# Altium integrated library Microchip PIC24F.IntLib: 529 symbols (part 5 of 32)
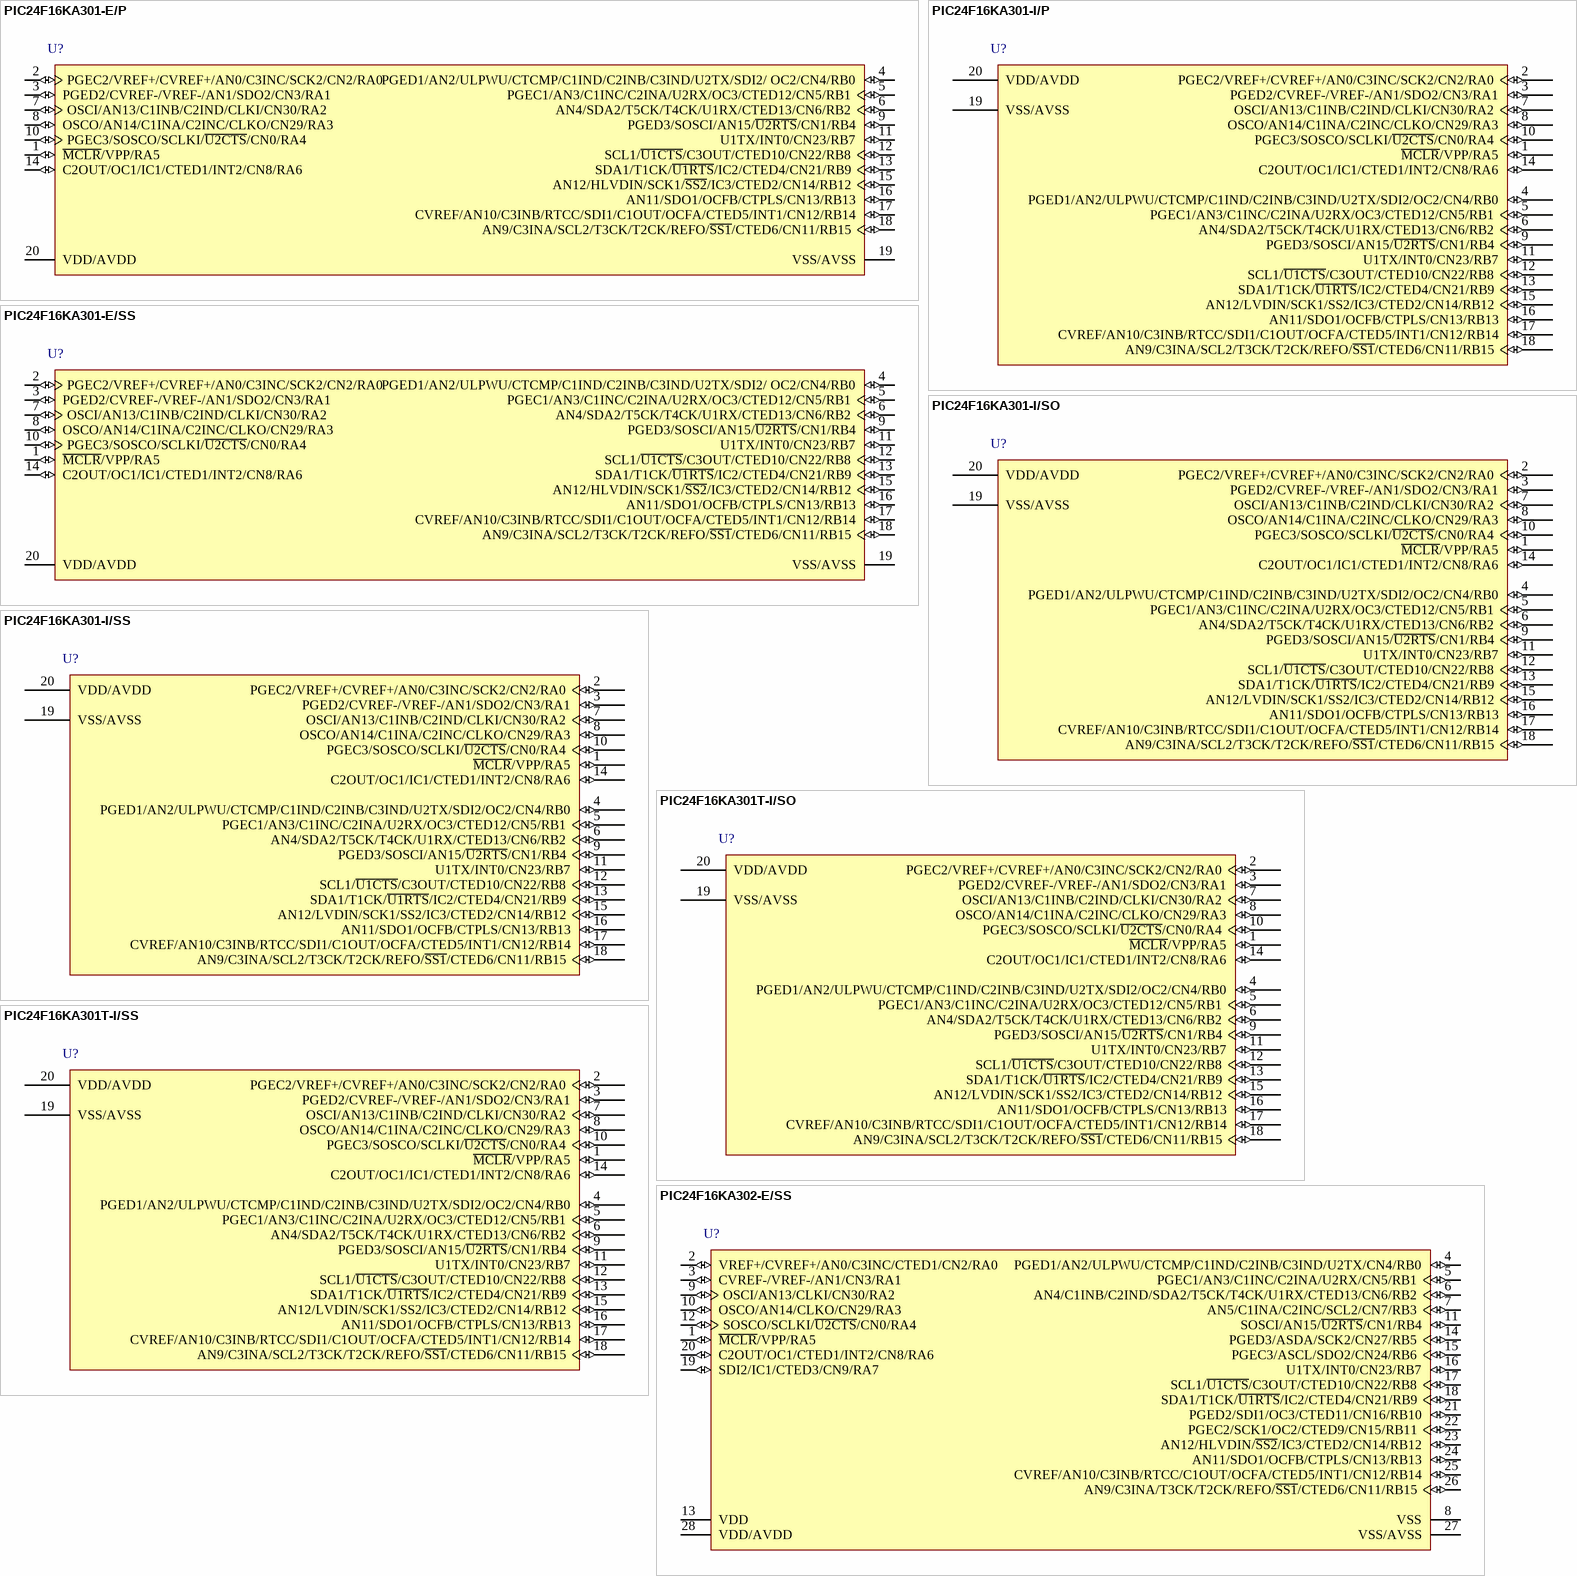
[diagram p126: symbols PIC24F16KA301-E/P to PIC24F16KA302-E/SS]

## PIC24F16KA301-I/SS
designator U?
16-Bit Flash Microcontroller with XLP Technology, 16KB Flash, 2KB SRAM, 20-Pin SSOP, Industrial Temperature; Manufacturer: Microchip; PartNumber: PIC24F16KA301-I/SS; DatasheetVersion: revB, Apr-2011; PackageVersion: revBB, Aug-2009; PackageReference: SSOP-SS20; PackageDescription: 20-Lead Plastic Shrink Small Outline (SS) - 5.3mm Body [SSOP]; Supplier 1: Digi-Key; Supplier Part Number 1: PIC24F16KA301-I/SS-ND; Supplier 2: Farnell; Supplier Part Number 2: 1898794; Supplier 3: Newark; Supplier Part Number 3: 79R3576; Supplier 4: Mouser; Supplier Part Number 4: 579-PIC24F16KA301ISS; Mounting Technology: Surface Mount; Code_JEDEC: MO-150; ComponentLink1Description: Manufacturer URL; ComponentLink1URL: http://www.microchip.com/; ComponentLink2Description: Datasheet; ComponentLink2URL: http://ww1.microchip.com/downloads/en/DeviceDoc/39995_b.pdf; ComponentLink3Description: Package Specification; ComponentLink3URL: http://www.microchip.com/stellent/groups/techpub_sg/documents/packagingspec/en012702.pdf
footprint SSOP-SS20_N (SOP, 20-Leads, Body 7.2x5.2mm, Pitch 0.65mm, IPC Medium Density)
footprint SSOP-SS20_L (SOP, 20-Leads, Body 7.2x5.2mm, Pitch 0.65mm, IPC High Density)
footprint SSOP-SS20_M (SOP, 20-Leads, Body 7.2x5.2mm, Pitch 0.65mm, IPC Low Density)
pins: 1 ~{MCLR}/VPP/RA5 (io), 2 PGEC2/VREF+/CVREF+/AN0/C3INC/SCK2/CN2/RA0 (io), 3 PGED2/CVREF-/VREF-/AN1/SDO2/CN3/RA1 (io), 4 PGED1/AN2/ULPWU/CTCMP/C1IND/C2INB/C3IND/U2TX/SDI2/OC2/CN4/RB0 (io), 5 PGEC1/AN3/C1INC/C2INA/U2RX/OC3/CTED12/CN5/RB1 (io), 6 AN4/SDA2/T5CK/T4CK/U1RX/CTED13/CN6/RB2 (io), 7 OSCI/AN13/C1INB/C2IND/CLKI/CN30/RA2 (io), 8 OSCO/AN14/C1INA/C2INC/CLKO/CN29/RA3 (io), 9 PGED3/SOSCI/AN15/~{U2RTS}/CN1/RB4 (io), 10 PGEC3/SOSCO/SCLKI/~{U2CTS}/CN0/RA4 (io), 11 U1TX/INT0/CN23/RB7 (io), 12 SCL1/~{U1CTS}/C3OUT/CTED10/CN22/RB8 (io), 13 SDA1/T1CK/~{U1RTS}/IC2/CTED4/CN21/RB9 (io), 14 C2OUT/OC1/IC1/CTED1/INT2/CN8/RA6 (io), 15 AN12/LVDIN/SCK1/SS2/IC3/CTED2/CN14/RB12 (io), 16 AN11/SDO1/OCFB/CTPLS/CN13/RB13 (io), 17 CVREF/AN10/C3INB/RTCC/SDI1/C1OUT/OCFA/CTED5/INT1/CN12/RB14 (io), 18 AN9/C3INA/SCL2/T3CK/T2CK/REFO/~{SS1}/CTED6/CN11/RB15 (io), 19 VSS/AVSS (power), 20 VDD/AVDD (power)

## PIC24F16KA301T-I/SO
designator U?
16-Bit Flash Microcontroller with XLP Technology, 16KB Flash, 2KB SRAM, 20-Pin SOIC, Industrial Temperature, Tape and Reel; Manufacturer: Microchip; PartNumber: PIC24F16KA301T-I/SO; DatasheetVersion: revB, Apr-2011; PackageVersion: revBB, Aug-2009; PackageReference: SOIC-SO20; PackageDescription: 20-Lead Plastic Small Outline (SO) - Wide 7.50mm Body [SOIC]; Supplier 1: Digi-Key; Supplier Part Number 1: PIC24F16KA301T-I/SO-ND; Supplier 2: Mouser; Supplier Part Number 2: 579-PIC24F16KA301TI; Mounting Technology: Surface Mount; Code_JEDEC: MS-013-AC; Code_IPC: SOIC127P1030-20; ComponentLink1Description: Manufacturer URL; ComponentLink1URL: http://www.microchip.com/; ComponentLink2Description: Datasheet; ComponentLink2URL: http://ww1.microchip.com/downloads/en/DeviceDoc/39995_b.pdf; ComponentLink3Description: Package Specification; ComponentLink3URL: http://www.microchip.com/stellent/groups/techpub_sg/documents/packagingspec/en012702.pdf
footprint SOIC-SO20_N (SOIC, 20-Leads, Body 12.8x7.5mm, Pitch 1.27mm, IPC Medium Density)
footprint SOIC-SO20_L (SOIC, 20-Leads, Body 12.8x7.5mm, Pitch 1.27mm, IPC High Density)
footprint SOIC-SO20_M (SOIC, 20-Leads, Body 12.8x7.5mm, Pitch 1.27mm, IPC Low Density)
pins: 1 ~{MCLR}/VPP/RA5 (io), 2 PGEC2/VREF+/CVREF+/AN0/C3INC/SCK2/CN2/RA0 (io), 3 PGED2/CVREF-/VREF-/AN1/SDO2/CN3/RA1 (io), 4 PGED1/AN2/ULPWU/CTCMP/C1IND/C2INB/C3IND/U2TX/SDI2/OC2/CN4/RB0 (io), 5 PGEC1/AN3/C1INC/C2INA/U2RX/OC3/CTED12/CN5/RB1 (io), 6 AN4/SDA2/T5CK/T4CK/U1RX/CTED13/CN6/RB2 (io), 7 OSCI/AN13/C1INB/C2IND/CLKI/CN30/RA2 (io), 8 OSCO/AN14/C1INA/C2INC/CLKO/CN29/RA3 (io), 9 PGED3/SOSCI/AN15/~{U2RTS}/CN1/RB4 (io), 10 PGEC3/SOSCO/SCLKI/~{U2CTS}/CN0/RA4 (io), 11 U1TX/INT0/CN23/RB7 (io), 12 SCL1/~{U1CTS}/C3OUT/CTED10/CN22/RB8 (io), 13 SDA1/T1CK/~{U1RTS}/IC2/CTED4/CN21/RB9 (io), 14 C2OUT/OC1/IC1/CTED1/INT2/CN8/RA6 (io), 15 AN12/LVDIN/SCK1/SS2/IC3/CTED2/CN14/RB12 (io), 16 AN11/SDO1/OCFB/CTPLS/CN13/RB13 (io), 17 CVREF/AN10/C3INB/RTCC/SDI1/C1OUT/OCFA/CTED5/INT1/CN12/RB14 (io), 18 AN9/C3INA/SCL2/T3CK/T2CK/REFO/~{SS1}/CTED6/CN11/RB15 (io), 19 VSS/AVSS (power), 20 VDD/AVDD (power)

## PIC24F16KA301T-I/SS
designator U?
16-Bit Flash Microcontroller with XLP Technology, 16KB Flash, 2KB SRAM, 20-Pin SSOP, Industrial Temperature, Tape and Reel; Manufacturer: Microchip; PartNumber: PIC24F16KA301T-I/SS; DatasheetVersion: revB, Apr-2011; PackageVersion: revBB, Aug-2009; PackageReference: SSOP-SS20; PackageDescription: 20-Lead Plastic Shrink Small Outline (SS) - 5.3mm Body [SSOP]; Supplier 1: Digi-Key; Supplier Part Number 1: PIC24F16KA301T-I/SS-ND; Supplier 2: Mouser; Supplier Part Number 2: 579-PIC24F16KA301TIS; Mounting Technology: Surface Mount; Code_JEDEC: MO-150; ComponentLink1Description: Manufacturer URL; ComponentLink1URL: http://www.microchip.com/; ComponentLink2Description: Datasheet; ComponentLink2URL: http://ww1.microchip.com/downloads/en/DeviceDoc/39995_b.pdf; ComponentLink3Description: Package Specification; ComponentLink3URL: http://www.microchip.com/stellent/groups/techpub_sg/documents/packagingspec/en012702.pdf
footprint SSOP-SS20_N (SOP, 20-Leads, Body 7.2x5.2mm, Pitch 0.65mm, IPC Medium Density)
footprint SSOP-SS20_L (SOP, 20-Leads, Body 7.2x5.2mm, Pitch 0.65mm, IPC High Density)
footprint SSOP-SS20_M (SOP, 20-Leads, Body 7.2x5.2mm, Pitch 0.65mm, IPC Low Density)
pins: 1 ~{MCLR}/VPP/RA5 (io), 2 PGEC2/VREF+/CVREF+/AN0/C3INC/SCK2/CN2/RA0 (io), 3 PGED2/CVREF-/VREF-/AN1/SDO2/CN3/RA1 (io), 4 PGED1/AN2/ULPWU/CTCMP/C1IND/C2INB/C3IND/U2TX/SDI2/OC2/CN4/RB0 (io), 5 PGEC1/AN3/C1INC/C2INA/U2RX/OC3/CTED12/CN5/RB1 (io), 6 AN4/SDA2/T5CK/T4CK/U1RX/CTED13/CN6/RB2 (io), 7 OSCI/AN13/C1INB/C2IND/CLKI/CN30/RA2 (io), 8 OSCO/AN14/C1INA/C2INC/CLKO/CN29/RA3 (io), 9 PGED3/SOSCI/AN15/~{U2RTS}/CN1/RB4 (io), 10 PGEC3/SOSCO/SCLKI/~{U2CTS}/CN0/RA4 (io), 11 U1TX/INT0/CN23/RB7 (io), 12 SCL1/~{U1CTS}/C3OUT/CTED10/CN22/RB8 (io), 13 SDA1/T1CK/~{U1RTS}/IC2/CTED4/CN21/RB9 (io), 14 C2OUT/OC1/IC1/CTED1/INT2/CN8/RA6 (io), 15 AN12/LVDIN/SCK1/SS2/IC3/CTED2/CN14/RB12 (io), 16 AN11/SDO1/OCFB/CTPLS/CN13/RB13 (io), 17 CVREF/AN10/C3INB/RTCC/SDI1/C1OUT/OCFA/CTED5/INT1/CN12/RB14 (io), 18 AN9/C3INA/SCL2/T3CK/T2CK/REFO/~{SS1}/CTED6/CN11/RB15 (io), 19 VSS/AVSS (power), 20 VDD/AVDD (power)

## PIC24F16KA302-E/SS
designator U?
General Purpose, 16-Bit Flash Microcontroller with XLP Technology, 16 MIPS, 24 I/O, -40 to 125 degC, 28-pin SSOP (SS28), Tube; Manufacturer: Microchip; PartNumber: PIC24F16KA302-E/SS; DatasheetVersion: Rev. C; PackageVersion: C04-073B; PackageReference: SSOP-SS28; PackageDescription: 28-Lead Plastic Shrink Small Outline, 10.2 x 5.3 mm Body, 0.65 mm Pitch; Supplier 1: Digi-Key; Supplier Part Number 1: PIC24F16KA302-E/SS-ND; Supplier 2: Newark; Supplier Part Number 2: 82R4418; Supplier 3: Mouser; Supplier Part Number 3: 579-PIC24F16KA302ESS; Mounting Technology: Surface Mount; ComponentLink1Description: Manufacturer URL; ComponentLink1URL: http://www.microchip.com; ComponentLink2Description: Datasheet; ComponentLink2URL: http://ww1.microchip.com/downloads/en/DeviceDoc/39995c.pdf; ComponentLink3Description: Package Specification; ComponentLink3URL: http://www.microchip.com/stellent/groups/techpub_sg/documents/packagingspec/en012702.pdf; ComponentLink4Description: Product URL; ComponentLink4URL: http://www.microchip.com/PIC24F16KA302
footprint MCHP-SSOP-SS28_N (SOP, 28-Leads, Body 10.2x5.3mm, Pitch 0.65mm, IPC Medium Density)
footprint MCHP-SSOP-SS28_L (SOP, 28-Leads, Body 10.2x5.3mm, Pitch 0.65mm, IPC High Density)
footprint MCHP-SSOP-SS28_M (SOP, 28-Leads, Body 10.2x5.3mm, Pitch 0.65mm, IPC Low Density)
pins: 1 ~{MCLR}/VPP/RA5 (io), 2 VREF+/CVREF+/AN0/C3INC/CTED1/CN2/RA0 (io), 3 CVREF-/VREF-/AN1/CN3/RA1 (io), 4 PGED1/AN2/ULPWU/CTCMP/C1IND/C2INB/C3IND/U2TX/CN4/RB0 (io), 5 PGEC1/AN3/C1INC/C2INA/U2RX/CN5/RB1 (io), 6 AN4/C1INB/C2IND/SDA2/T5CK/T4CK/U1RX/CTED13/CN6/RB2 (io), 7 AN5/C1INA/C2INC/SCL2/CN7/RB3 (io), 8 VSS (power) "Device Digital Ground Return", 9 OSCI/AN13/CLKI/CN30/RA2 (io), 10 OSCO/AN14/CLKO/CN29/RA3 (io), 11 SOSCI/AN15/~{U2RTS}/CN1/RB4 (io), 12 SOSCO/SCLKI/~{U2CTS}/CN0/RA4 (io), 13 VDD (power) "Device Digital Supply Voltage", 14 PGED3/ASDA/SCK2/CN27/RB5 (io), 15 PGEC3/ASCL/SDO2/CN24/RB6 (io), 16 U1TX/INT0/CN23/RB7 (io), 17 SCL1/~{U1CTS}/C3OUT/CTED10/CN22/RB8 (io), 18 SDA1/T1CK/~{U1RTS}/IC2/CTED4/CN21/RB9 (io), 19 SDI2/IC1/CTED3/CN9/RA7 (io), 20 C2OUT/OC1/CTED1/INT2/CN8/RA6 (io), 21 PGED2/SDI1/OC3/CTED11/CN16/RB10 (io), 22 PGEC2/SCK1/OC2/CTED9/CN15/RB11 (io), 23 AN12/HLVDIN/~{SS2}/IC3/CTED2/CN14/RB12 (io), 24 AN11/SDO1/OCFB/CTPLS/CN13/RB13 (io), 25 CVREF/AN10/C3INB/RTCC/C1OUT/OCFA/CTED5/INT1/CN12/RB14 (io), 26 AN9/C3INA/T3CK/T2CK/REFO/~{SS1}/CTED6/CN11/RB15 (io), 27 VSS/AVSS (power), 28 VDD/AVDD (power)

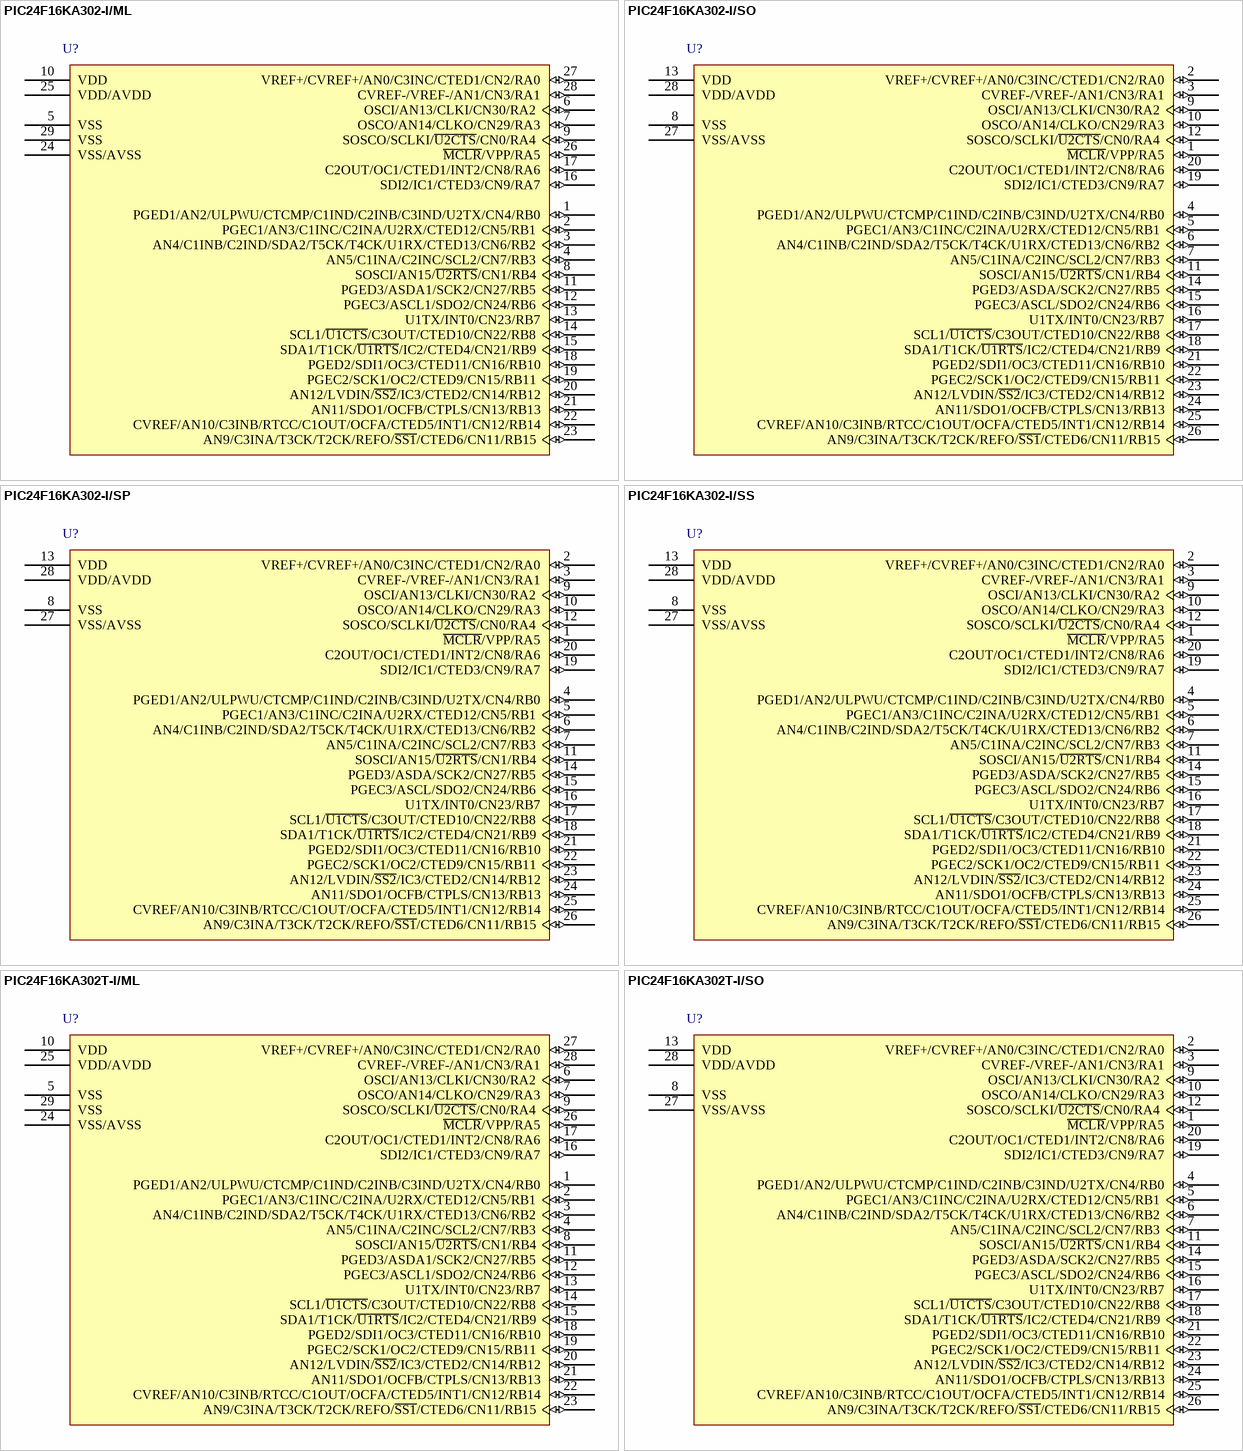
[diagram p12: symbols PIC24F16KA302-I/ML to PIC24F16KA302T-I/SO]

## PIC24F16KA302-I/ML
designator U?
16-Bit Flash Microcontroller with XLP Technology, 16KB Flash, 2KB SRAM, 28-Pin QFN, Industrial Temperature; Manufacturer: Microchip; PartNumber: PIC24F16KA302-I/ML; DatasheetVersion: revB, Apr-2011; PackageVersion: revBB, Aug-2009; PackageReference: QFN-ML28; PackageDescription: 28-Lead Plastic Quad Flat, No Lead Package (ML) - 6x6 mm Body [QFN] with 0.55 mm Contact Length; Supplier 1: Digi-Key; Supplier Part Number 1: PIC24F16KA302-I/ML-ND; Supplier 2: Mouser; Supplier Part Number 2: 579-PIC24F16KA302IML; Mounting Technology: Surface Mount; Code_JEDEC: MO-220; ComponentLink1Description: Manufacturer URL; ComponentLink1URL: http://www.microchip.com/; ComponentLink2Description: Datasheet; ComponentLink2URL: http://ww1.microchip.com/downloads/en/DeviceDoc/39995_b.pdf; ComponentLink3Description: Package Specification; ComponentLink3URL: http://www.microchip.com/stellent/groups/techpub_sg/documents/packagingspec/en012702.pdf
footprint QFN-ML28_N (QFN, 28-Leads, Body 6x6mm, Pitch 0.65mm, Thermal Pad 4.2x4.2mm, IPC Medium Density)
footprint QFN-ML28_L (QFN, 28-Leads, Body 6x6mm, Pitch 0.65mm, Thermal Pad 4.2x4.2mm, IPC High Density)
footprint QFN-ML28_M (QFN, 28-Leads, Body 6x6mm, Pitch 0.65mm, Thermal Pad 4.2x4.2mm, IPC Low Density)
pins: 1 PGED1/AN2/ULPWU/CTCMP/C1IND/C2INB/C3IND/U2TX/CN4/RB0 (io), 2 PGEC1/AN3/C1INC/C2INA/U2RX/CTED12/CN5/RB1 (io), 3 AN4/C1INB/C2IND/SDA2/T5CK/T4CK/U1RX/CTED13/CN6/RB2 (io), 4 AN5/C1INA/C2INC/SCL2/CN7/RB3 (io), 5 VSS (power), 6 OSCI/AN13/CLKI/CN30/RA2 (io), 7 OSCO/AN14/CLKO/CN29/RA3 (io), 8 SOSCI/AN15/~{U2RTS}/CN1/RB4 (io), 9 SOSCO/SCLKI/~{U2CTS}/CN0/RA4 (io), 10 VDD (power), 11 PGED3/ASDA1/SCK2/CN27/RB5 (io), 12 PGEC3/ASCL1/SDO2/CN24/RB6 (io), 13 U1TX/INT0/CN23/RB7 (io), 14 SCL1/~{U1CTS}/C3OUT/CTED10/CN22/RB8 (io), 15 SDA1/T1CK/~{U1RTS}/IC2/CTED4/CN21/RB9 (io), 16 SDI2/IC1/CTED3/CN9/RA7 (io), 17 C2OUT/OC1/CTED1/INT2/CN8/RA6 (io), 18 PGED2/SDI1/OC3/CTED11/CN16/RB10 (io), 19 PGEC2/SCK1/OC2/CTED9/CN15/RB11 (io), 20 AN12/LVDIN/~{SS2}/IC3/CTED2/CN14/RB12 (io), 21 AN11/SDO1/OCFB/CTPLS/CN13/RB13 (io), 22 CVREF/AN10/C3INB/RTCC/C1OUT/OCFA/CTED5/INT1/CN12/RB14 (io), 23 AN9/C3INA/T3CK/T2CK/REFO/~{SS1}/CTED6/CN11/RB15 (io), 24 VSS/AVSS (power), 25 VDD/AVDD (power), 26 ~{MCLR}/VPP/RA5 (io), 27 VREF+/CVREF+/AN0/C3INC/CTED1/CN2/RA0 (io), 28 CVREF-/VREF-/AN1/CN3/RA1 (io), 29 VSS (power)

## PIC24F16KA302-I/SO
designator U?
16-Bit Flash Microcontroller with XLP Technology, 16KB Flash, 2KB SRAM, 28-Pin SOIC, Industrial Temperature; Manufacturer: Microchip; PartNumber: PIC24F16KA302-I/SO; DatasheetVersion: revB, Apr-2011; PackageVersion: revBB, Aug-2009; PackageReference: SOIC-SO28; PackageDescription: 28-Lead Plastic Small Outline (SO) - Wide 7.50mm Body [SOIC]; Supplier 1: Digi-Key; Supplier Part Number 1: PIC24F16KA302-I/SO-ND; Supplier 2: Farnell; Supplier Part Number 2: 1898795; Supplier 3: Newark; Supplier Part Number 3: 79R3580; Supplier 4: Mouser; Supplier Part Number 4: 579-PIC24F16KA302ISO; Mounting Technology: Surface Mount; Code_JEDEC: MS-013; ComponentLink1Description: Manufacturer URL; ComponentLink1URL: http://www.microchip.com/; ComponentLink2Description: Datasheet; ComponentLink2URL: http://ww1.microchip.com/downloads/en/DeviceDoc/39995_b.pdf; ComponentLink3Description: Package Specification; ComponentLink3URL: http://www.microchip.com/stellent/groups/techpub_sg/documents/packagingspec/en012702.pdf
footprint SOIC-SO28_N (SOIC, 28-Leads, Body 17.9x7.5mm, Pitch 1.27mm, IPC Medium Density)
footprint SOIC-SO28_L (SOIC, 28-Leads, Body 17.9x7.5mm, Pitch 1.27mm, IPC High Density)
footprint SOIC-SO28_M (SOIC, 28-Leads, Body 17.9x7.5mm, Pitch 1.27mm, IPC Low Density)
pins: 1 ~{MCLR}/VPP/RA5 (io), 2 VREF+/CVREF+/AN0/C3INC/CTED1/CN2/RA0 (io), 3 CVREF-/VREF-/AN1/CN3/RA1 (io), 4 PGED1/AN2/ULPWU/CTCMP/C1IND/C2INB/C3IND/U2TX/CN4/RB0 (io), 5 PGEC1/AN3/C1INC/C2INA/U2RX/CTED12/CN5/RB1 (io), 6 AN4/C1INB/C2IND/SDA2/T5CK/T4CK/U1RX/CTED13/CN6/RB2 (io), 7 AN5/C1INA/C2INC/SCL2/CN7/RB3 (io), 8 VSS (power), 9 OSCI/AN13/CLKI/CN30/RA2 (io), 10 OSCO/AN14/CLKO/CN29/RA3 (io), 11 SOSCI/AN15/~{U2RTS}/CN1/RB4 (io), 12 SOSCO/SCLKI/~{U2CTS}/CN0/RA4 (io), 13 VDD (power), 14 PGED3/ASDA/SCK2/CN27/RB5 (io), 15 PGEC3/ASCL/SDO2/CN24/RB6 (io), 16 U1TX/INT0/CN23/RB7 (io), 17 SCL1/~{U1CTS}/C3OUT/CTED10/CN22/RB8 (io), 18 SDA1/T1CK/~{U1RTS}/IC2/CTED4/CN21/RB9 (io), 19 SDI2/IC1/CTED3/CN9/RA7 (io), 20 C2OUT/OC1/CTED1/INT2/CN8/RA6 (io), 21 PGED2/SDI1/OC3/CTED11/CN16/RB10 (io), 22 PGEC2/SCK1/OC2/CTED9/CN15/RB11 (io), 23 AN12/LVDIN/~{SS2}/IC3/CTED2/CN14/RB12 (io), 24 AN11/SDO1/OCFB/CTPLS/CN13/RB13 (io), 25 CVREF/AN10/C3INB/RTCC/C1OUT/OCFA/CTED5/INT1/CN12/RB14 (io), 26 AN9/C3INA/T3CK/T2CK/REFO/~{SS1}/CTED6/CN11/RB15 (io), 27 VSS/AVSS (power), 28 VDD/AVDD (power)

## PIC24F16KA302-I/SP
designator U?
16-Bit Flash Microcontroller with XLP Technology, 16KB Flash, 2KB SRAM, 28-Pin SPDIP, Industrial Temperature; Manufacturer: Microchip; PartNumber: PIC24F16KA302-I/SP; DatasheetVersion: revB, Apr-2011; PackageVersion: revBB, Aug-2009; PackageReference: SPDIP300-SP28; PackageDescription: 28-Lead Skinny Plastic Dual In-Line (SP) - 300 mil Body [SPDIP]; Supplier 1: Digi-Key; Supplier Part Number 1: PIC24F16KA302-I/SP-ND; Supplier 2: Mouser; Supplier Part Number 2: 579-PIC24F16KA302ISP; Mounting Technology: Through Hole; ComponentLink1Description: Manufacturer URL; ComponentLink1URL: http://www.microchip.com/; ComponentLink2Description: Datasheet; ComponentLink2URL: http://ww1.microchip.com/downloads/en/DeviceDoc/39995_b.pdf; ComponentLink3Description: Package Specification; ComponentLink3URL: http://www.microchip.com/stellent/groups/techpub_sg/documents/packagingspec/en012702.pdf
footprint SPDIP300-SP28 (DIP, 28-Leads, Row Spacing 7.62mm, Pitch 2.54mm, Body 34.9x6.8mm)
pins: 1 ~{MCLR}/VPP/RA5 (io), 2 VREF+/CVREF+/AN0/C3INC/CTED1/CN2/RA0 (io), 3 CVREF-/VREF-/AN1/CN3/RA1 (io), 4 PGED1/AN2/ULPWU/CTCMP/C1IND/C2INB/C3IND/U2TX/CN4/RB0 (io), 5 PGEC1/AN3/C1INC/C2INA/U2RX/CTED12/CN5/RB1 (io), 6 AN4/C1INB/C2IND/SDA2/T5CK/T4CK/U1RX/CTED13/CN6/RB2 (io), 7 AN5/C1INA/C2INC/SCL2/CN7/RB3 (io), 8 VSS (power), 9 OSCI/AN13/CLKI/CN30/RA2 (io), 10 OSCO/AN14/CLKO/CN29/RA3 (io), 11 SOSCI/AN15/~{U2RTS}/CN1/RB4 (io), 12 SOSCO/SCLKI/~{U2CTS}/CN0/RA4 (io), 13 VDD (power), 14 PGED3/ASDA/SCK2/CN27/RB5 (io), 15 PGEC3/ASCL/SDO2/CN24/RB6 (io), 16 U1TX/INT0/CN23/RB7 (io), 17 SCL1/~{U1CTS}/C3OUT/CTED10/CN22/RB8 (io), 18 SDA1/T1CK/~{U1RTS}/IC2/CTED4/CN21/RB9 (io), 19 SDI2/IC1/CTED3/CN9/RA7 (io), 20 C2OUT/OC1/CTED1/INT2/CN8/RA6 (io), 21 PGED2/SDI1/OC3/CTED11/CN16/RB10 (io), 22 PGEC2/SCK1/OC2/CTED9/CN15/RB11 (io), 23 AN12/LVDIN/~{SS2}/IC3/CTED2/CN14/RB12 (io), 24 AN11/SDO1/OCFB/CTPLS/CN13/RB13 (io), 25 CVREF/AN10/C3INB/RTCC/C1OUT/OCFA/CTED5/INT1/CN12/RB14 (io), 26 AN9/C3INA/T3CK/T2CK/REFO/~{SS1}/CTED6/CN11/RB15 (io), 27 VSS/AVSS (power), 28 VDD/AVDD (power)

## PIC24F16KA302-I/SS
designator U?
16-Bit Flash Microcontroller with XLP Technology, 16KB Flash, 2KB SRAM, 28-Pin SSOP, Industrial Temperature; Manufacturer: Microchip; PartNumber: PIC24F16KA302-I/SS; DatasheetVersion: revB, Apr-2011; PackageVersion: revBB, Aug-2009; PackageReference: SSOP-SS28; PackageDescription: 28-Lead Plastic Shrink Small Outline (SS) - 5.3mm Body [SSOP]; Supplier 1: Digi-Key; Supplier Part Number 1: PIC24F16KA302-I/SS-ND; Supplier 2: Farnell; Supplier Part Number 2: 1898797; Supplier 3: Newark; Supplier Part Number 3: 79R3582; Supplier 4: Mouser; Supplier Part Number 4: 579-PIC24F16KA302ISS; Mounting Technology: Surface Mount; Code_JEDEC: MS-150; ComponentLink1Description: Manufacturer URL; ComponentLink1URL: http://www.microchip.com/; ComponentLink2Description: Datasheet; ComponentLink2URL: http://ww1.microchip.com/downloads/en/DeviceDoc/39995_b.pdf; ComponentLink3Description: Package Specification; ComponentLink3URL: http://www.microchip.com/stellent/groups/techpub_sg/documents/packagingspec/en012702.pdf
footprint SSOP-SS28_N (SOP, 28-Leads, Body 10.2x5.2mm, Pitch 0.65mm, IPC Medium Density)
footprint SSOP-SS28_L (SOP, 28-Leads, Body 10.2x5.2mm, Pitch 0.65mm, IPC High Density)
footprint SSOP-SS28_M (SOP, 28-Leads, Body 10.2x5.2mm, Pitch 0.65mm, IPC Low Density)
pins: 1 ~{MCLR}/VPP/RA5 (io), 2 VREF+/CVREF+/AN0/C3INC/CTED1/CN2/RA0 (io), 3 CVREF-/VREF-/AN1/CN3/RA1 (io), 4 PGED1/AN2/ULPWU/CTCMP/C1IND/C2INB/C3IND/U2TX/CN4/RB0 (io), 5 PGEC1/AN3/C1INC/C2INA/U2RX/CTED12/CN5/RB1 (io), 6 AN4/C1INB/C2IND/SDA2/T5CK/T4CK/U1RX/CTED13/CN6/RB2 (io), 7 AN5/C1INA/C2INC/SCL2/CN7/RB3 (io), 8 VSS (power), 9 OSCI/AN13/CLKI/CN30/RA2 (io), 10 OSCO/AN14/CLKO/CN29/RA3 (io), 11 SOSCI/AN15/~{U2RTS}/CN1/RB4 (io), 12 SOSCO/SCLKI/~{U2CTS}/CN0/RA4 (io), 13 VDD (power), 14 PGED3/ASDA/SCK2/CN27/RB5 (io), 15 PGEC3/ASCL/SDO2/CN24/RB6 (io), 16 U1TX/INT0/CN23/RB7 (io), 17 SCL1/~{U1CTS}/C3OUT/CTED10/CN22/RB8 (io), 18 SDA1/T1CK/~{U1RTS}/IC2/CTED4/CN21/RB9 (io), 19 SDI2/IC1/CTED3/CN9/RA7 (io), 20 C2OUT/OC1/CTED1/INT2/CN8/RA6 (io), 21 PGED2/SDI1/OC3/CTED11/CN16/RB10 (io), 22 PGEC2/SCK1/OC2/CTED9/CN15/RB11 (io), 23 AN12/LVDIN/~{SS2}/IC3/CTED2/CN14/RB12 (io), 24 AN11/SDO1/OCFB/CTPLS/CN13/RB13 (io), 25 CVREF/AN10/C3INB/RTCC/C1OUT/OCFA/CTED5/INT1/CN12/RB14 (io), 26 AN9/C3INA/T3CK/T2CK/REFO/~{SS1}/CTED6/CN11/RB15 (io), 27 VSS/AVSS (power), 28 VDD/AVDD (power)

## PIC24F16KA302T-I/ML
designator U?
16-Bit Flash Microcontroller with XLP Technology, 16KB Flash, 2KB SRAM, 28-Pin QFN, Industrial Temperature, Tape and Reel; Manufacturer: Microchip; PartNumber: PIC24F16KA302T-I/ML; DatasheetVersion: revB, Apr-2011; PackageVersion: revBB, Aug-2009; PackageReference: QFN-ML28; PackageDescription: 28-Lead Plastic Quad Flat, No Lead Package (ML) - 6x6 mm Body [QFN] with 0.55 mm Contact Length; Supplier 1: Digi-Key; Supplier Part Number 1: PIC24F16KA302T-I/ML-ND; Supplier 2: Mouser; Supplier Part Number 2: 579-PIC24F16KA302TIM; Mounting Technology: Surface Mount; Code_JEDEC: MO-220; ComponentLink1Description: Manufacturer URL; ComponentLink1URL: http://www.microchip.com/; ComponentLink2Description: Datasheet; ComponentLink2URL: http://ww1.microchip.com/downloads/en/DeviceDoc/39995_b.pdf; ComponentLink3Description: Package Specification; ComponentLink3URL: http://www.microchip.com/stellent/groups/techpub_sg/documents/packagingspec/en012702.pdf
footprint QFN-ML28_N (QFN, 28-Leads, Body 6x6mm, Pitch 0.65mm, Thermal Pad 4.2x4.2mm, IPC Medium Density)
footprint QFN-ML28_L (QFN, 28-Leads, Body 6x6mm, Pitch 0.65mm, Thermal Pad 4.2x4.2mm, IPC High Density)
footprint QFN-ML28_M (QFN, 28-Leads, Body 6x6mm, Pitch 0.65mm, Thermal Pad 4.2x4.2mm, IPC Low Density)
pins: 1 PGED1/AN2/ULPWU/CTCMP/C1IND/C2INB/C3IND/U2TX/CN4/RB0 (io), 2 PGEC1/AN3/C1INC/C2INA/U2RX/CTED12/CN5/RB1 (io), 3 AN4/C1INB/C2IND/SDA2/T5CK/T4CK/U1RX/CTED13/CN6/RB2 (io), 4 AN5/C1INA/C2INC/SCL2/CN7/RB3 (io), 5 VSS (power), 6 OSCI/AN13/CLKI/CN30/RA2 (io), 7 OSCO/AN14/CLKO/CN29/RA3 (io), 8 SOSCI/AN15/~{U2RTS}/CN1/RB4 (io), 9 SOSCO/SCLKI/~{U2CTS}/CN0/RA4 (io), 10 VDD (power), 11 PGED3/ASDA1/SCK2/CN27/RB5 (io), 12 PGEC3/ASCL1/SDO2/CN24/RB6 (io), 13 U1TX/INT0/CN23/RB7 (io), 14 SCL1/~{U1CTS}/C3OUT/CTED10/CN22/RB8 (io), 15 SDA1/T1CK/~{U1RTS}/IC2/CTED4/CN21/RB9 (io), 16 SDI2/IC1/CTED3/CN9/RA7 (io), 17 C2OUT/OC1/CTED1/INT2/CN8/RA6 (io), 18 PGED2/SDI1/OC3/CTED11/CN16/RB10 (io), 19 PGEC2/SCK1/OC2/CTED9/CN15/RB11 (io), 20 AN12/LVDIN/~{SS2}/IC3/CTED2/CN14/RB12 (io), 21 AN11/SDO1/OCFB/CTPLS/CN13/RB13 (io), 22 CVREF/AN10/C3INB/RTCC/C1OUT/OCFA/CTED5/INT1/CN12/RB14 (io), 23 AN9/C3INA/T3CK/T2CK/REFO/~{SS1}/CTED6/CN11/RB15 (io), 24 VSS/AVSS (power), 25 VDD/AVDD (power), 26 ~{MCLR}/VPP/RA5 (io), 27 VREF+/CVREF+/AN0/C3INC/CTED1/CN2/RA0 (io), 28 CVREF-/VREF-/AN1/CN3/RA1 (io), 29 VSS (power)

## PIC24F16KA302T-I/SO
designator U?
16-Bit Flash Microcontroller with XLP Technology, 16KB Flash, 2KB SRAM, 28-Pin SOIC, Industrial Temperature, Tape and Reel; Manufacturer: Microchip; PartNumber: PIC24F16KA302T-I/SO; DatasheetVersion: revB, Apr-2011; PackageVersion: revBB, Aug-2009; PackageReference: SOIC-SO28; PackageDescription: 28-Lead Plastic Small Outline (SO) - Wide 7.50mm Body [SOIC]; Supplier 1: Digi-Key; Supplier Part Number 1: PIC24F16KA302T-I/SO-ND; Supplier 2: Mouser; Supplier Part Number 2: 579-PIC24F16KA302TI; Mounting Technology: Surface Mount; Code_JEDEC: MS-013; ComponentLink1Description: Manufacturer URL; ComponentLink1URL: http://www.microchip.com/; ComponentLink2Description: Datasheet; ComponentLink2URL: http://ww1.microchip.com/downloads/en/DeviceDoc/39995_b.pdf; ComponentLink3Description: Package Specification; ComponentLink3URL: http://www.microchip.com/stellent/groups/techpub_sg/documents/packagingspec/en012702.pdf
footprint SOIC-SO28_N (SOIC, 28-Leads, Body 17.9x7.5mm, Pitch 1.27mm, IPC Medium Density)
footprint SOIC-SO28_L (SOIC, 28-Leads, Body 17.9x7.5mm, Pitch 1.27mm, IPC High Density)
footprint SOIC-SO28_M (SOIC, 28-Leads, Body 17.9x7.5mm, Pitch 1.27mm, IPC Low Density)
pins: 1 ~{MCLR}/VPP/RA5 (io), 2 VREF+/CVREF+/AN0/C3INC/CTED1/CN2/RA0 (io), 3 CVREF-/VREF-/AN1/CN3/RA1 (io), 4 PGED1/AN2/ULPWU/CTCMP/C1IND/C2INB/C3IND/U2TX/CN4/RB0 (io), 5 PGEC1/AN3/C1INC/C2INA/U2RX/CTED12/CN5/RB1 (io), 6 AN4/C1INB/C2IND/SDA2/T5CK/T4CK/U1RX/CTED13/CN6/RB2 (io), 7 AN5/C1INA/C2INC/SCL2/CN7/RB3 (io), 8 VSS (power), 9 OSCI/AN13/CLKI/CN30/RA2 (io), 10 OSCO/AN14/CLKO/CN29/RA3 (io), 11 SOSCI/AN15/~{U2RTS}/CN1/RB4 (io), 12 SOSCO/SCLKI/~{U2CTS}/CN0/RA4 (io), 13 VDD (power), 14 PGED3/ASDA/SCK2/CN27/RB5 (io), 15 PGEC3/ASCL/SDO2/CN24/RB6 (io), 16 U1TX/INT0/CN23/RB7 (io), 17 SCL1/~{U1CTS}/C3OUT/CTED10/CN22/RB8 (io), 18 SDA1/T1CK/~{U1RTS}/IC2/CTED4/CN21/RB9 (io), 19 SDI2/IC1/CTED3/CN9/RA7 (io), 20 C2OUT/OC1/CTED1/INT2/CN8/RA6 (io), 21 PGED2/SDI1/OC3/CTED11/CN16/RB10 (io), 22 PGEC2/SCK1/OC2/CTED9/CN15/RB11 (io), 23 AN12/LVDIN/~{SS2}/IC3/CTED2/CN14/RB12 (io), 24 AN11/SDO1/OCFB/CTPLS/CN13/RB13 (io), 25 CVREF/AN10/C3INB/RTCC/C1OUT/OCFA/CTED5/INT1/CN12/RB14 (io), 26 AN9/C3INA/T3CK/T2CK/REFO/~{SS1}/CTED6/CN11/RB15 (io), 27 VSS/AVSS (power), 28 VDD/AVDD (power)

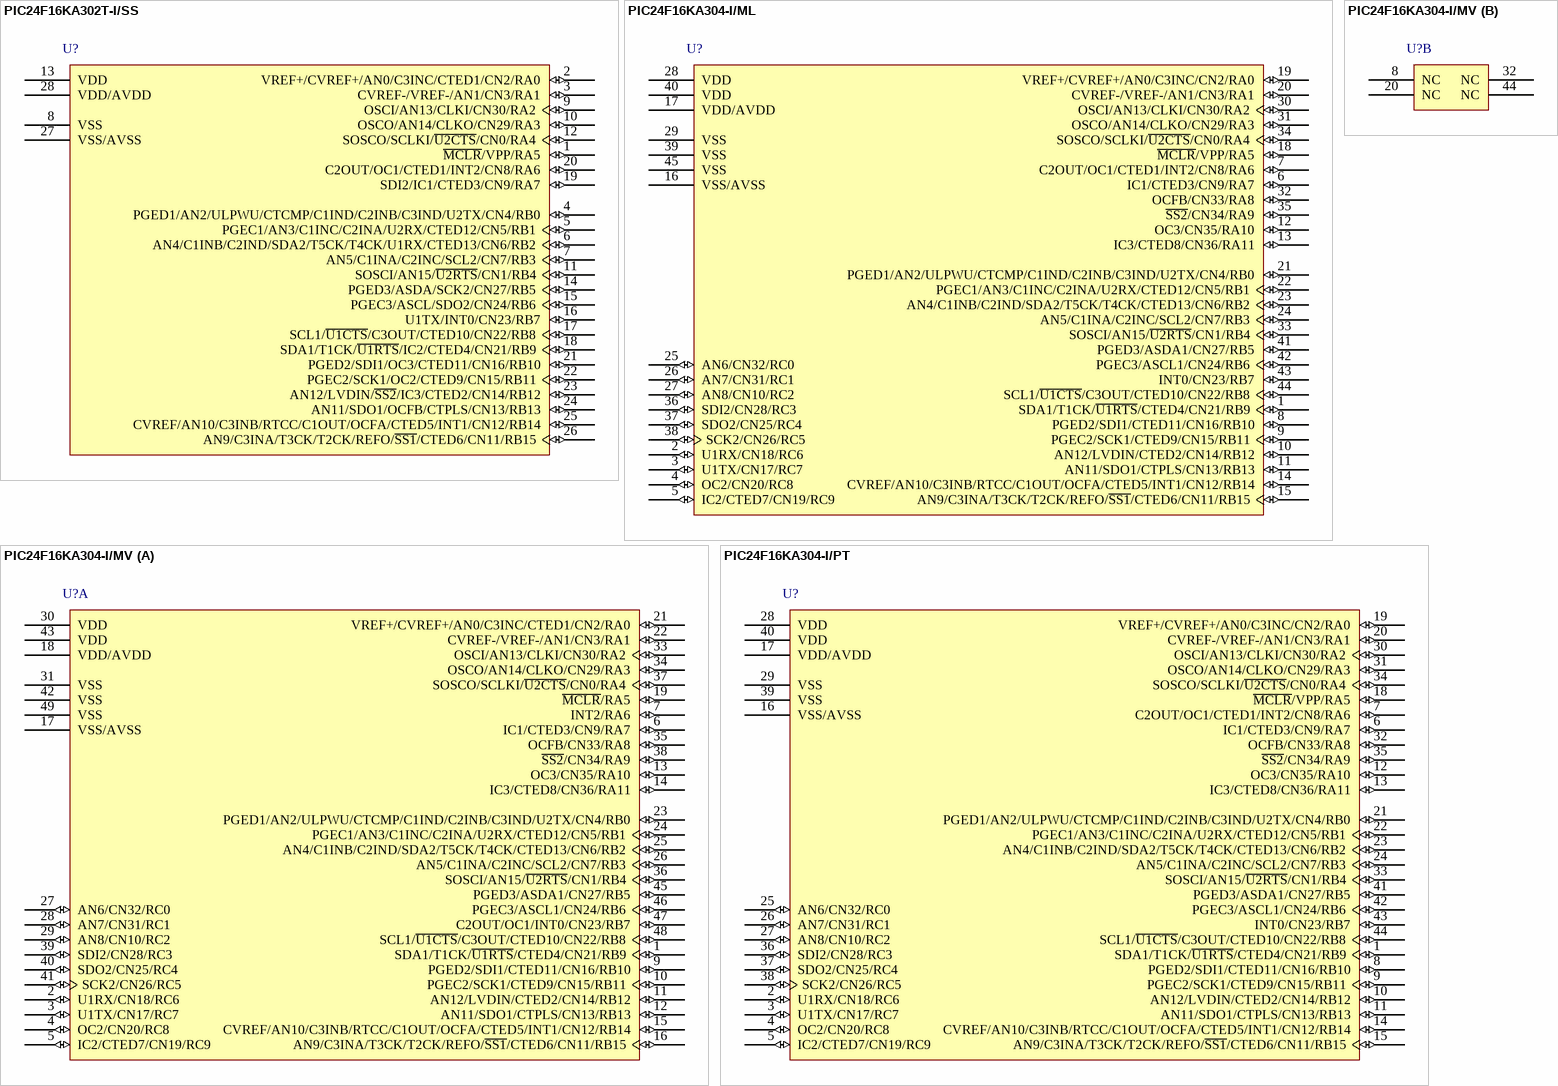
[diagram p13: symbols PIC24F16KA302T-I/SS to PIC24F16KA304-I/PT]

## PIC24F16KA302T-I/SS
designator U?
16-Bit Flash Microcontroller with XLP Technology, 16KB Flash, 2KB SRAM, 28-Pin SSOP, Industrial Temperature, Tape and Reel; Manufacturer: Microchip; PartNumber: PIC24F16KA302T-I/SS; DatasheetVersion: revB, Apr-2011; PackageVersion: revBB, Aug-2009; PackageReference: SSOP-SS28; PackageDescription: 28-Lead Plastic Shrink Small Outline (SS) - 5.3mm Body [SSOP]; Supplier 1: Digi-Key; Supplier Part Number 1: PIC24F16KA302T-I/SS-ND; Supplier 2: Mouser; Supplier Part Number 2: 579-PIC24F16KA302TIS; Mounting Technology: Surface Mount; Code_JEDEC: MS-150; ComponentLink1Description: Manufacturer URL; ComponentLink1URL: http://www.microchip.com/; ComponentLink2Description: Datasheet; ComponentLink2URL: http://ww1.microchip.com/downloads/en/DeviceDoc/39995_b.pdf; ComponentLink3Description: Package Specification; ComponentLink3URL: http://www.microchip.com/stellent/groups/techpub_sg/documents/packagingspec/en012702.pdf
footprint SSOP-SS28_N (SOP, 28-Leads, Body 10.2x5.2mm, Pitch 0.65mm, IPC Medium Density)
footprint SSOP-SS28_L (SOP, 28-Leads, Body 10.2x5.2mm, Pitch 0.65mm, IPC High Density)
footprint SSOP-SS28_M (SOP, 28-Leads, Body 10.2x5.2mm, Pitch 0.65mm, IPC Low Density)
pins: 1 ~{MCLR}/VPP/RA5 (io), 2 VREF+/CVREF+/AN0/C3INC/CTED1/CN2/RA0 (io), 3 CVREF-/VREF-/AN1/CN3/RA1 (io), 4 PGED1/AN2/ULPWU/CTCMP/C1IND/C2INB/C3IND/U2TX/CN4/RB0 (io), 5 PGEC1/AN3/C1INC/C2INA/U2RX/CTED12/CN5/RB1 (io), 6 AN4/C1INB/C2IND/SDA2/T5CK/T4CK/U1RX/CTED13/CN6/RB2 (io), 7 AN5/C1INA/C2INC/SCL2/CN7/RB3 (io), 8 VSS (power), 9 OSCI/AN13/CLKI/CN30/RA2 (io), 10 OSCO/AN14/CLKO/CN29/RA3 (io), 11 SOSCI/AN15/~{U2RTS}/CN1/RB4 (io), 12 SOSCO/SCLKI/~{U2CTS}/CN0/RA4 (io), 13 VDD (power), 14 PGED3/ASDA/SCK2/CN27/RB5 (io), 15 PGEC3/ASCL/SDO2/CN24/RB6 (io), 16 U1TX/INT0/CN23/RB7 (io), 17 SCL1/~{U1CTS}/C3OUT/CTED10/CN22/RB8 (io), 18 SDA1/T1CK/~{U1RTS}/IC2/CTED4/CN21/RB9 (io), 19 SDI2/IC1/CTED3/CN9/RA7 (io), 20 C2OUT/OC1/CTED1/INT2/CN8/RA6 (io), 21 PGED2/SDI1/OC3/CTED11/CN16/RB10 (io), 22 PGEC2/SCK1/OC2/CTED9/CN15/RB11 (io), 23 AN12/LVDIN/~{SS2}/IC3/CTED2/CN14/RB12 (io), 24 AN11/SDO1/OCFB/CTPLS/CN13/RB13 (io), 25 CVREF/AN10/C3INB/RTCC/C1OUT/OCFA/CTED5/INT1/CN12/RB14 (io), 26 AN9/C3INA/T3CK/T2CK/REFO/~{SS1}/CTED6/CN11/RB15 (io), 27 VSS/AVSS (power), 28 VDD/AVDD (power)

## PIC24F16KA304-I/ML
designator U?
16-Bit Flash Microcontroller with XLP Technology, 16KB Flash, 2KB SRAM, 44-Pin QFN, Industrial Temperature; Manufacturer: Microchip; PartNumber: PIC24F16KA304-I/ML; DatasheetVersion: revB, Apr-2011; PackageVersion: revBB, Aug-2009; PackageReference: QFN-ML44; PackageDescription: 44-Lead Plastic Quad Flat, No Lead Package (ML) - 8x8 mm Body [QFN]; Supplier 1: Digi-Key; Supplier Part Number 1: PIC24F16KA304-I/ML-ND; Supplier 2: Mouser; Supplier Part Number 2: 579-PIC24F16KA304IML; Mounting Technology: Surface Mount; Code_JEDEC: MO-220; Code_IPC: QFN65P800X800-44V2; ComponentLink1Description: Manufacturer URL; ComponentLink1URL: http://www.microchip.com/; ComponentLink2Description: Datasheet; ComponentLink2URL: http://ww1.microchip.com/downloads/en/DeviceDoc/39995_b.pdf; ComponentLink3Description: Package Specification; ComponentLink3URL: http://www.microchip.com/stellent/groups/techpub_sg/documents/packagingspec/en012702.pdf
footprint QFN-ML44_N (QFN, 44-Leads, Body 8x8mm, Pitch 0.65mm, Thermal Pad 6.8x6.8mm, IPC Medium Density)
footprint QFN-ML44_L (QFN, 44-Leads, Body 8x8mm, Pitch 0.65mm, Thermal Pad 6.8x6.8mm, IPC High Density)
footprint QFN-ML44_M (QFN, 44-Leads, Body 8x8mm, Pitch 0.65mm, Thermal Pad 6.8x6.8mm, IPC Low Density)
pins: 1 SDA1/T1CK/~{U1RTS}/CTED4/CN21/RB9 (io), 2 U1RX/CN18/RC6 (io), 3 U1TX/CN17/RC7 (io), 4 OC2/CN20/RC8 (io), 5 IC2/CTED7/CN19/RC9 (io), 6 IC1/CTED3/CN9/RA7 (io), 7 C2OUT/OC1/CTED1/INT2/CN8/RA6 (io), 8 PGED2/SDI1/CTED11/CN16/RB10 (io), 9 PGEC2/SCK1/CTED9/CN15/RB11 (io), 10 AN12/LVDIN/CTED2/CN14/RB12 (io), 11 AN11/SDO1/CTPLS/CN13/RB13 (io), 12 OC3/CN35/RA10 (io), 13 IC3/CTED8/CN36/RA11 (io), 14 CVREF/AN10/C3INB/RTCC/C1OUT/OCFA/CTED5/INT1/CN12/RB14 (io), 15 AN9/C3INA/T3CK/T2CK/REFO/~{SS1}/CTED6/CN11/RB15 (io), 16 VSS/AVSS (power), 17 VDD/AVDD (power), 18 ~{MCLR}/VPP/RA5 (io), 19 VREF+/CVREF+/AN0/C3INC/CN2/RA0 (io), 20 CVREF-/VREF-/AN1/CN3/RA1 (io), 21 PGED1/AN2/ULPWU/CTCMP/C1IND/C2INB/C3IND/U2TX/CN4/RB0 (io), 22 PGEC1/AN3/C1INC/C2INA/U2RX/CTED12/CN5/RB1 (io), 23 AN4/C1INB/C2IND/SDA2/T5CK/T4CK/CTED13/CN6/RB2 (io), 24 AN5/C1INA/C2INC/SCL2/CN7/RB3 (io), 25 AN6/CN32/RC0 (io), 26 AN7/CN31/RC1 (io), 27 AN8/CN10/RC2 (io), 28 VDD (power), 29 VSS (power), 30 OSCI/AN13/CLKI/CN30/RA2 (io), 31 OSCO/AN14/CLKO/CN29/RA3 (io), 32 OCFB/CN33/RA8 (io), 33 SOSCI/AN15/~{U2RTS}/CN1/RB4 (io), 34 SOSCO/SCLKI/~{U2CTS}/CN0/RA4 (io), 35 ~{SS2}/CN34/RA9 (io), 36 SDI2/CN28/RC3 (io), 37 SDO2/CN25/RC4 (io), 38 SCK2/CN26/RC5 (io), 39 VSS (power), 40 VDD (power), 41 PGED3/ASDA1/CN27/RB5 (io), 42 PGEC3/ASCL1/CN24/RB6 (io), 43 INT0/CN23/RB7 (io), 44 SCL1/~{U1CTS}/C3OUT/CTED10/CN22/RB8 (io), 45 VSS (power)

## PIC24F16KA304-I/MV
designator U?
16-Bit Flash Microcontroller with XLP Technology, 16KB Flash, 2KB SRAM, 48-Pin UQFN, Industrial Temperature; Manufacturer: Microchip; PartNumber: PIC24F16KA304-I/MV; DatasheetVersion: revB, Apr-2011; PackageVersion: revBG, Mar-2011; PackageReference: UQFN-MV48; PackageDescription: 48-Lead Plastic Ultra Thin Quad Flat, No Lead Package (MV) - 6x6x0.5 mm Body [UQFN]; Supplier 1: Digi-Key; Supplier Part Number 1: PIC24F16KA304-I/MV-ND; Supplier 2: Mouser; Supplier Part Number 2: 579-PIC24F16KA304IMV; Mounting Technology: Surface Mount; ComponentLink1Description: Manufacturer URL; ComponentLink1URL: http://www.microchip.com/; ComponentLink2Description: Datasheet; ComponentLink2URL: http://ww1.microchip.com/downloads/en/DeviceDoc/39995_b.pdf; ComponentLink3Description: Package Specification; ComponentLink3URL: http://www.microchip.com/stellent/groups/techpub_sg/documents/packagingspec/en012702.pdf
footprint UQFN-MV48_N (QFN, 48-Leads, Body 6x6mm, Pitch 0.4mm, Thermal Pad 4.8x4.8mm, IPC Medium Density)
footprint UQFN-MV48_L (QFN, 48-Leads, Body 6x6mm, Pitch 0.4mm, Thermal Pad 4.8x4.8mm, IPC High Density)
footprint UQFN-MV48_M (QFN, 48-Leads, Body 6x6mm, Pitch 0.4mm, Thermal Pad 4.8x4.8mm, IPC Low Density)
part A pins: 1 SDA1/T1CK/~{U1RTS}/CTED4/CN21/RB9 (io), 2 U1RX/CN18/RC6 (io), 3 U1TX/CN17/RC7 (io), 4 OC2/CN20/RC8 (io), 5 IC2/CTED7/CN19/RC9 (io), 6 IC1/CTED3/CN9/RA7 (io), 7 INT2/RA6 (io), 9 PGED2/SDI1/CTED11/CN16/RB10 (io), 10 PGEC2/SCK1/CTED9/CN15/RB11 (io), 11 AN12/LVDIN/CTED2/CN14/RB12 (io), 12 AN11/SDO1/CTPLS/CN13/RB13 (io), 13 OC3/CN35/RA10 (io), 14 IC3/CTED8/CN36/RA11 (io), 15 CVREF/AN10/C3INB/RTCC/C1OUT/OCFA/CTED5/INT1/CN12/RB14 (io), 16 AN9/C3INA/T3CK/T2CK/REFO/~{SS1}/CTED6/CN11/RB15 (io), 17 VSS/AVSS (power), 18 VDD/AVDD (power), 19 ~{MCLR}/RA5 (io), 21 VREF+/CVREF+/AN0/C3INC/CTED1/CN2/RA0 (io), 22 CVREF-/VREF-/AN1/CN3/RA1 (io), 23 PGED1/AN2/ULPWU/CTCMP/C1IND/C2INB/C3IND/U2TX/CN4/RB0 (io), 24 PGEC1/AN3/C1INC/C2INA/U2RX/CTED12/CN5/RB1 (io), 25 AN4/C1INB/C2IND/SDA2/T5CK/T4CK/CTED13/CN6/RB2 (io), 26 AN5/C1INA/C2INC/SCL2/CN7/RB3 (io), 27 AN6/CN32/RC0 (io), 28 AN7/CN31/RC1 (io), 29 AN8/CN10/RC2 (io), 30 VDD (power), 31 VSS (power), 33 OSCI/AN13/CLKI/CN30/RA2 (io), 34 OSCO/AN14/CLKO/CN29/RA3 (io), 35 OCFB/CN33/RA8 (io), 36 SOSCI/AN15/~{U2RTS}/CN1/RB4 (io), 37 SOSCO/SCLKI/~{U2CTS}/CN0/RA4 (io), 38 ~{SS2}/CN34/RA9 (io), 39 SDI2/CN28/RC3 (io), 40 SDO2/CN25/RC4 (io), 41 SCK2/CN26/RC5 (io), 42 VSS (power), 43 VDD (power), 45 PGED3/ASDA1/CN27/RB5 (io), 46 PGEC3/ASCL1/CN24/RB6 (io), 47 C2OUT/OC1/INT0/CN23/RB7 (io), 48 SCL1/~{U1CTS}/C3OUT/CTED10/CN22/RB8 (io), 49 VSS (power)
part B pins: 8 NC, 20 NC, 32 NC, 44 NC

## PIC24F16KA304-I/PT
designator U?
16-Bit Flash Microcontroller with XLP Technology, 16KB Flash, 2KB SRAM, 44-Pin TQFP, Industrial Temperature; Manufacturer: Microchip; PartNumber: PIC24F16KA304-I/PT; DatasheetVersion: revB, Apr-2011; PackageVersion: revBB, Aug-2009; PackageReference: TQFP-PT44; PackageDescription: 44-Lead Plastic Thin Quad Flatpack (PT) - 10x10x1mm Body, 2.00mm [TQFP]; Supplier 1: Digi-Key; Supplier Part Number 1: PIC24F16KA304-I/PT-ND; Supplier 2: Mouser; Supplier Part Number 2: 579-PIC24F16KA304IPT; Mounting Technology: Surface Mount; Code_JEDEC: MS-026; ComponentLink1Description: Manufacturer URL; ComponentLink1URL: http://www.microchip.com/; ComponentLink2Description: Datasheet; ComponentLink2URL: http://ww1.microchip.com/downloads/en/DeviceDoc/39995_b.pdf; ComponentLink3Description: Package Specification; ComponentLink3URL: http://www.microchip.com/stellent/groups/techpub_sg/documents/packagingspec/en012702.pdf
footprint TQFP-PT44_N (Thin QFP, 44-Leads, Body 10x10mm, Pitch 0.8mm, IPC Medium Density)
footprint TQFP-PT44_L (Thin QFP, 44-Leads, Body 10x10mm, Pitch 0.8mm, IPC High Density)
footprint TQFP-PT44_M (Thin QFP, 44-Leads, Body 10x10mm, Pitch 0.8mm, IPC Low Density)
pins: 1 SDA1/T1CK/~{U1RTS}/CTED4/CN21/RB9 (io), 2 U1RX/CN18/RC6 (io), 3 U1TX/CN17/RC7 (io), 4 OC2/CN20/RC8 (io), 5 IC2/CTED7/CN19/RC9 (io), 6 IC1/CTED3/CN9/RA7 (io), 7 C2OUT/OC1/CTED1/INT2/CN8/RA6 (io), 8 PGED2/SDI1/CTED11/CN16/RB10 (io), 9 PGEC2/SCK1/CTED9/CN15/RB11 (io), 10 AN12/LVDIN/CTED2/CN14/RB12 (io), 11 AN11/SDO1/CTPLS/CN13/RB13 (io), 12 OC3/CN35/RA10 (io), 13 IC3/CTED8/CN36/RA11 (io), 14 CVREF/AN10/C3INB/RTCC/C1OUT/OCFA/CTED5/INT1/CN12/RB14 (io), 15 AN9/C3INA/T3CK/T2CK/REFO/~{SS1}/CTED6/CN11/RB15 (io), 16 VSS/AVSS (power), 17 VDD/AVDD (power), 18 ~{MCLR}/VPP/RA5 (io), 19 VREF+/CVREF+/AN0/C3INC/CN2/RA0 (io), 20 CVREF-/VREF-/AN1/CN3/RA1 (io), 21 PGED1/AN2/ULPWU/CTCMP/C1IND/C2INB/C3IND/U2TX/CN4/RB0 (io), 22 PGEC1/AN3/C1INC/C2INA/U2RX/CTED12/CN5/RB1 (io), 23 AN4/C1INB/C2IND/SDA2/T5CK/T4CK/CTED13/CN6/RB2 (io), 24 AN5/C1INA/C2INC/SCL2/CN7/RB3 (io), 25 AN6/CN32/RC0 (io), 26 AN7/CN31/RC1 (io), 27 AN8/CN10/RC2 (io), 28 VDD (power), 29 VSS (power), 30 OSCI/AN13/CLKI/CN30/RA2 (io), 31 OSCO/AN14/CLKO/CN29/RA3 (io), 32 OCFB/CN33/RA8 (io), 33 SOSCI/AN15/~{U2RTS}/CN1/RB4 (io), 34 SOSCO/SCLKI/~{U2CTS}/CN0/RA4 (io), 35 ~{SS2}/CN34/RA9 (io), 36 SDI2/CN28/RC3 (io), 37 SDO2/CN25/RC4 (io), 38 SCK2/CN26/RC5 (io), 39 VSS (power), 40 VDD (power), 41 PGED3/ASDA1/CN27/RB5 (io), 42 PGEC3/ASCL1/CN24/RB6 (io), 43 INT0/CN23/RB7 (io), 44 SCL1/~{U1CTS}/C3OUT/CTED10/CN22/RB8 (io)

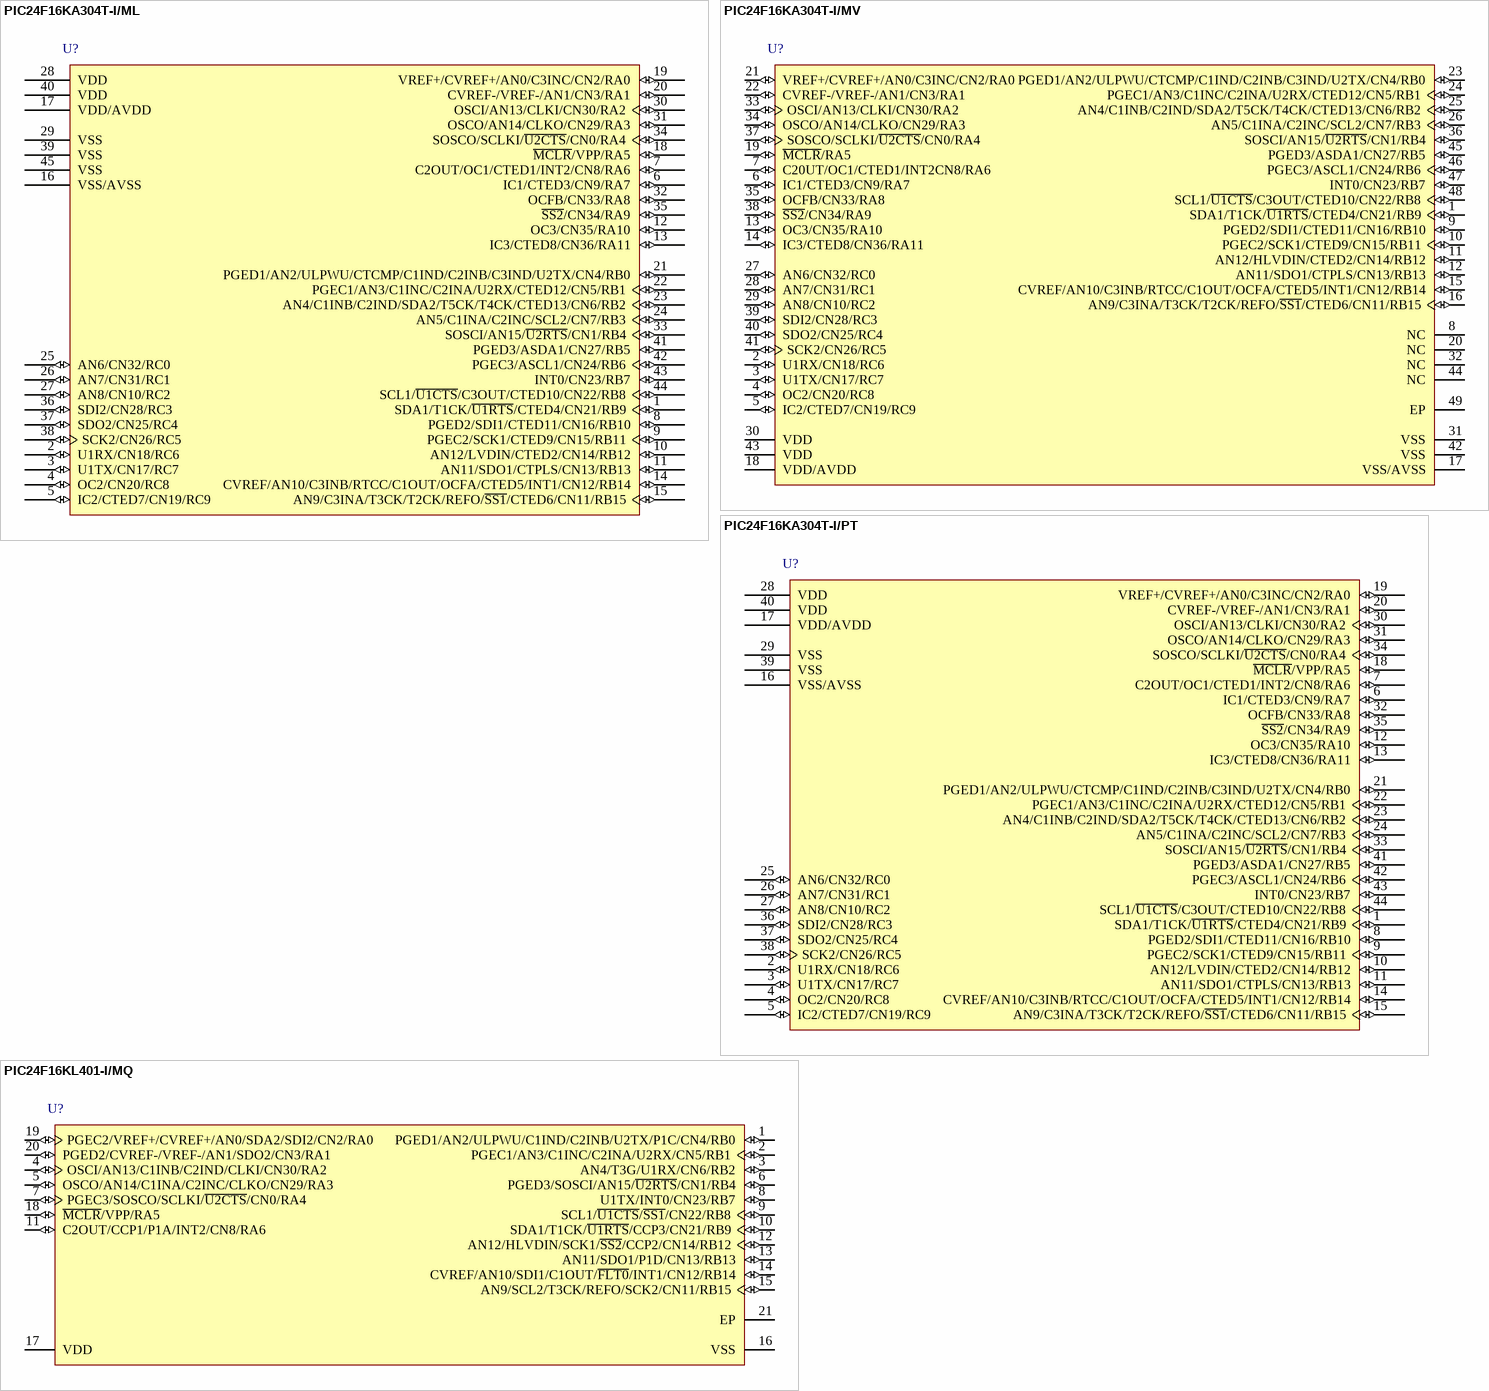
[diagram p14: symbols PIC24F16KA304T-I/ML to PIC24F16KL401-I/MQ]

## PIC24F16KA304T-I/ML
designator U?
16-Bit Flash Microcontroller with XLP Technology, 16KB Flash, 2KB SRAM, 44-Pin QFN, Industrial Temperature, Tape and Reel; Manufacturer: Microchip; PartNumber: PIC24F16KA304T-I/ML; DatasheetVersion: revB, Apr-2011; PackageVersion: revBB, Aug-2009; PackageReference: QFN-ML44; PackageDescription: 44-Lead Plastic Quad Flat, No Lead Package (ML) - 8x8 mm Body [QFN]; Supplier 1: Digi-Key; Supplier Part Number 1: PIC24F16KA304T-I/ML-ND; Supplier 2: Mouser; Supplier Part Number 2: 579-PIC24F16KA304TI; Mounting Technology: Surface Mount; Code_JEDEC: MO-220; Code_IPC: QFN65P800X800-44V2; ComponentLink1Description: Manufacturer URL; ComponentLink1URL: http://www.microchip.com/; ComponentLink2Description: Datasheet; ComponentLink2URL: http://ww1.microchip.com/downloads/en/DeviceDoc/39995_b.pdf; ComponentLink3Description: Package Specification; ComponentLink3URL: http://www.microchip.com/stellent/groups/techpub_sg/documents/packagingspec/en012702.pdf
footprint QFN-ML44_N (QFN, 44-Leads, Body 8x8mm, Pitch 0.65mm, Thermal Pad 6.8x6.8mm, IPC Medium Density)
footprint QFN-ML44_L (QFN, 44-Leads, Body 8x8mm, Pitch 0.65mm, Thermal Pad 6.8x6.8mm, IPC High Density)
footprint QFN-ML44_M (QFN, 44-Leads, Body 8x8mm, Pitch 0.65mm, Thermal Pad 6.8x6.8mm, IPC Low Density)
pins: 1 SDA1/T1CK/~{U1RTS}/CTED4/CN21/RB9 (io), 2 U1RX/CN18/RC6 (io), 3 U1TX/CN17/RC7 (io), 4 OC2/CN20/RC8 (io), 5 IC2/CTED7/CN19/RC9 (io), 6 IC1/CTED3/CN9/RA7 (io), 7 C2OUT/OC1/CTED1/INT2/CN8/RA6 (io), 8 PGED2/SDI1/CTED11/CN16/RB10 (io), 9 PGEC2/SCK1/CTED9/CN15/RB11 (io), 10 AN12/LVDIN/CTED2/CN14/RB12 (io), 11 AN11/SDO1/CTPLS/CN13/RB13 (io), 12 OC3/CN35/RA10 (io), 13 IC3/CTED8/CN36/RA11 (io), 14 CVREF/AN10/C3INB/RTCC/C1OUT/OCFA/CTED5/INT1/CN12/RB14 (io), 15 AN9/C3INA/T3CK/T2CK/REFO/~{SS1}/CTED6/CN11/RB15 (io), 16 VSS/AVSS (power), 17 VDD/AVDD (power), 18 ~{MCLR}/VPP/RA5 (io), 19 VREF+/CVREF+/AN0/C3INC/CN2/RA0 (io), 20 CVREF-/VREF-/AN1/CN3/RA1 (io), 21 PGED1/AN2/ULPWU/CTCMP/C1IND/C2INB/C3IND/U2TX/CN4/RB0 (io), 22 PGEC1/AN3/C1INC/C2INA/U2RX/CTED12/CN5/RB1 (io), 23 AN4/C1INB/C2IND/SDA2/T5CK/T4CK/CTED13/CN6/RB2 (io), 24 AN5/C1INA/C2INC/SCL2/CN7/RB3 (io), 25 AN6/CN32/RC0 (io), 26 AN7/CN31/RC1 (io), 27 AN8/CN10/RC2 (io), 28 VDD (power), 29 VSS (power), 30 OSCI/AN13/CLKI/CN30/RA2 (io), 31 OSCO/AN14/CLKO/CN29/RA3 (io), 32 OCFB/CN33/RA8 (io), 33 SOSCI/AN15/~{U2RTS}/CN1/RB4 (io), 34 SOSCO/SCLKI/~{U2CTS}/CN0/RA4 (io), 35 ~{SS2}/CN34/RA9 (io), 36 SDI2/CN28/RC3 (io), 37 SDO2/CN25/RC4 (io), 38 SCK2/CN26/RC5 (io), 39 VSS (power), 40 VDD (power), 41 PGED3/ASDA1/CN27/RB5 (io), 42 PGEC3/ASCL1/CN24/RB6 (io), 43 INT0/CN23/RB7 (io), 44 SCL1/~{U1CTS}/C3OUT/CTED10/CN22/RB8 (io), 45 VSS (power)

## PIC24F16KA304T-I/MV
designator U?
General Purpose, 16-Bit Flash Microcontroller with XLP Technology, 16 MIPS, 38 I/O, -40 to 85 degC, 48-pin UQFN (MV48), Tape and Reel; Manufacturer: Microchip; PartNumber: PIC24F16KA304T-I/MV; DatasheetVersion: Rev. C; PackageVersion: C04-153A; PackageReference: UQFN-MV48; PackageDescription: 48-Lead Plastic Ultra Thin Quad Flat, No Lead Package, 6 x 6 mm Body, 0.4 mm Pitch; Supplier 1: Digi-Key; Supplier Part Number 1: PIC24F16KA304T-I/MV-ND; Supplier 2: Mouser; Supplier Part Number 2: 579-PIC24F16KA304TIM; Mounting Technology: Surface Mount; ComponentLink1Description: Manufacturer URL; ComponentLink1URL: http://www.microchip.com; ComponentLink2Description: Datasheet; ComponentLink2URL: http://ww1.microchip.com/downloads/en/DeviceDoc/39995c.pdf; ComponentLink3Description: Package Specification; ComponentLink3URL: http://www.microchip.com/stellent/groups/techpub_sg/documents/packagingspec/en012702.pdf; ComponentLink4Description: Product URL; ComponentLink4URL: http://www.microchip.com/PIC24F16KA304
footprint MCHP-UQFN-MV48_N (QFN, 48-Leads, Body 6x6mm, Pitch 0.4mm, Thermal Pad 4.6x4.6mm, IPC Medium Density)
footprint MCHP-UQFN-MV48_L (QFN, 48-Leads, Body 6x6mm, Pitch 0.4mm, Thermal Pad 4.6x4.6mm, IPC High Density)
footprint MCHP-UQFN-MV48_M (QFN, 48-Leads, Body 6x6mm, Pitch 0.4mm, Thermal Pad 4.6x4.6mm, IPC Low Density)
pins: 1 SDA1/T1CK/~{U1RTS}/CTED4/CN21/RB9 (io), 2 U1RX/CN18/RC6 (io), 3 U1TX/CN17/RC7 (io), 4 OC2/CN20/RC8 (io), 5 IC2/CTED7/CN19/RC9 (io), 6 IC1/CTED3/CN9/RA7 (io), 7 C20UT/OC1/CTED1/INT2CN8/RA6 (io), 8 NC, 9 PGED2/SDI1/CTED11/CN16/RB10 (io), 10 PGEC2/SCK1/CTED9/CN15/RB11 (io), 11 AN12/HLVDIN/CTED2/CN14/RB12 (io), 12 AN11/SDO1/CTPLS/CN13/RB13 (io), 13 OC3/CN35/RA10 (io), 14 IC3/CTED8/CN36/RA11 (io), 15 CVREF/AN10/C3INB/RTCC/C1OUT/OCFA/CTED5/INT1/CN12/RB14 (io), 16 AN9/C3INA/T3CK/T2CK/REFO/~{SS1}/CTED6/CN11/RB15 (io), 17 VSS/AVSS (power), 18 VDD/AVDD (power), 19 ~{MCLR}/RA5 (io), 20 NC, 21 VREF+/CVREF+/AN0/C3INC/CN2/RA0 (io), 22 CVREF-/VREF-/AN1/CN3/RA1 (io), 23 PGED1/AN2/ULPWU/CTCMP/C1IND/C2INB/C3IND/U2TX/CN4/RB0 (io), 24 PGEC1/AN3/C1INC/C2INA/U2RX/CTED12/CN5/RB1 (io), 25 AN4/C1INB/C2IND/SDA2/T5CK/T4CK/CTED13/CN6/RB2 (io), 26 AN5/C1INA/C2INC/SCL2/CN7/RB3 (io), 27 AN6/CN32/RC0 (io), 28 AN7/CN31/RC1 (io), 29 AN8/CN10/RC2 (io), 30 VDD (power) "Core Power", 31 VSS (power) "Device Digital Ground Return", 32 NC, 33 OSCI/AN13/CLKI/CN30/RA2 (io), 34 OSCO/AN14/CLKO/CN29/RA3 (io), 35 OCFB/CN33/RA8 (io), 36 SOSCI/AN15/~{U2RTS}/CN1/RB4 (io), 37 SOSCO/SCLKI/~{U2CTS}/CN0/RA4 (io), 38 ~{SS2}/CN34/RA9 (io), 39 SDI2/CN28/RC3 (io), 40 SDO2/CN25/RC4 (io), 41 SCK2/CN26/RC5 (io), 42 VSS (power) "Device Digital Ground Return", 43 VDD (power) "Core Power", 44 NC, 45 PGED3/ASDA1/CN27/RB5 (io), 46 PGEC3/ASCL1/CN24/RB6 (io), 47 INT0/CN23/RB7 (io), 48 SCL1/~{U1CTS}/C3OUT/CTED10/CN22/RB8 (io), 49 EP (power)

## PIC24F16KA304T-I/PT
designator U?
16-Bit Flash Microcontroller with XLP Technology, 16KB Flash, 2KB SRAM, 44-Pin TQFP, Industrial Temperature, Tape and Reel; Manufacturer: Microchip; PartNumber: PIC24F16KA304T-I/PT; DatasheetVersion: revB, Apr-2011; PackageVersion: revBB, Aug-2009; PackageReference: TQFP-PT44; PackageDescription: 44-Lead Plastic Thin Quad Flatpack (PT) - 10x10x1mm Body, 2.00mm [TQFP]; Supplier 1: Digi-Key; Supplier Part Number 1: PIC24F16KA304T-I/PT-ND; Supplier 2: Mouser; Supplier Part Number 2: 579-PIC24F16KA304TIP; Mounting Technology: Surface Mount; Code_JEDEC: MS-026; ComponentLink1Description: Manufacturer URL; ComponentLink1URL: http://www.microchip.com/; ComponentLink2Description: Datasheet; ComponentLink2URL: http://ww1.microchip.com/downloads/en/DeviceDoc/39995_b.pdf; ComponentLink3Description: Package Specification; ComponentLink3URL: http://www.microchip.com/stellent/groups/techpub_sg/documents/packagingspec/en012702.pdf
footprint TQFP-PT44_N (Thin QFP, 44-Leads, Body 10x10mm, Pitch 0.8mm, IPC Medium Density)
footprint TQFP-PT44_L (Thin QFP, 44-Leads, Body 10x10mm, Pitch 0.8mm, IPC High Density)
footprint TQFP-PT44_M (Thin QFP, 44-Leads, Body 10x10mm, Pitch 0.8mm, IPC Low Density)
pins: 1 SDA1/T1CK/~{U1RTS}/CTED4/CN21/RB9 (io), 2 U1RX/CN18/RC6 (io), 3 U1TX/CN17/RC7 (io), 4 OC2/CN20/RC8 (io), 5 IC2/CTED7/CN19/RC9 (io), 6 IC1/CTED3/CN9/RA7 (io), 7 C2OUT/OC1/CTED1/INT2/CN8/RA6 (io), 8 PGED2/SDI1/CTED11/CN16/RB10 (io), 9 PGEC2/SCK1/CTED9/CN15/RB11 (io), 10 AN12/LVDIN/CTED2/CN14/RB12 (io), 11 AN11/SDO1/CTPLS/CN13/RB13 (io), 12 OC3/CN35/RA10 (io), 13 IC3/CTED8/CN36/RA11 (io), 14 CVREF/AN10/C3INB/RTCC/C1OUT/OCFA/CTED5/INT1/CN12/RB14 (io), 15 AN9/C3INA/T3CK/T2CK/REFO/~{SS1}/CTED6/CN11/RB15 (io), 16 VSS/AVSS (power), 17 VDD/AVDD (power), 18 ~{MCLR}/VPP/RA5 (io), 19 VREF+/CVREF+/AN0/C3INC/CN2/RA0 (io), 20 CVREF-/VREF-/AN1/CN3/RA1 (io), 21 PGED1/AN2/ULPWU/CTCMP/C1IND/C2INB/C3IND/U2TX/CN4/RB0 (io), 22 PGEC1/AN3/C1INC/C2INA/U2RX/CTED12/CN5/RB1 (io), 23 AN4/C1INB/C2IND/SDA2/T5CK/T4CK/CTED13/CN6/RB2 (io), 24 AN5/C1INA/C2INC/SCL2/CN7/RB3 (io), 25 AN6/CN32/RC0 (io), 26 AN7/CN31/RC1 (io), 27 AN8/CN10/RC2 (io), 28 VDD (power), 29 VSS (power), 30 OSCI/AN13/CLKI/CN30/RA2 (io), 31 OSCO/AN14/CLKO/CN29/RA3 (io), 32 OCFB/CN33/RA8 (io), 33 SOSCI/AN15/~{U2RTS}/CN1/RB4 (io), 34 SOSCO/SCLKI/~{U2CTS}/CN0/RA4 (io), 35 ~{SS2}/CN34/RA9 (io), 36 SDI2/CN28/RC3 (io), 37 SDO2/CN25/RC4 (io), 38 SCK2/CN26/RC5 (io), 39 VSS (power), 40 VDD (power), 41 PGED3/ASDA1/CN27/RB5 (io), 42 PGEC3/ASCL1/CN24/RB6 (io), 43 INT0/CN23/RB7 (io), 44 SCL1/~{U1CTS}/C3OUT/CTED10/CN22/RB8 (io)

## PIC24F16KL401-I/MQ
designator U?
Low-Cost General Purpose 16-Bit Flash Microcontroller with nanoWatt XLP Technology, 16 MIPS, 18 I/O, -40 to 85 degC, 20-pin QFN (MQ20), Tube; Manufacturer: Microchip; PartNumber: PIC24F16KL401-I/MQ; DatasheetVersion: Rev. B; PackageVersion: C04-139B; PackageReference: QFN-MQ20; PackageDescription: 20-Lead Plastic Quad Flat, No Lead Package, 5 x 5 mm Body, 0.65 mm Pitch; Supplier 1: Digi-Key; Supplier Part Number 1: PIC24F16KL401-I/MQ-ND; Supplier 2: Farnell; Supplier Part Number 2: 2079400; Supplier 3: Newark; Supplier Part Number 3: 82T9611; Supplier 4: Newark; Supplier Part Number 4: 64T1125; Supplier 5: Mouser; Supplier Part Number 5: 579-PIC24F16KL401IMQ; Mounting Technology: Surface Mount; ComponentLink1Description: Manufacturer URL; ComponentLink1URL: http://www.microchip.com; ComponentLink2Description: Datasheet; ComponentLink2URL: http://ww1.microchip.com/downloads/en/DeviceDoc/31037b.pdf; ComponentLink3Description: Package Specification; ComponentLink3URL: http://www.microchip.com/stellent/groups/techpub_sg/documents/packagingspec/en012702.pdf; ComponentLink4Description: Product URL; ComponentLink4URL: http://www.microchip.com/PIC24F16KL401
footprint MCHP-QFN-MQ20_N (QFN, 20-Leads, Body 5x5mm, Pitch 0.65mm, Thermal Pad 3.25x3.25mm, IPC Medium Density)
footprint MCHP-QFN-MQ20_L (QFN, 20-Leads, Body 5x5mm, Pitch 0.65mm, Thermal Pad 3.25x3.25mm, IPC High Density)
footprint MCHP-QFN-MQ20_M (QFN, 20-Leads, Body 5x5mm, Pitch 0.65mm, Thermal Pad 3.25x3.25mm, IPC Low Density)
pins: 1 PGED1/AN2/ULPWU/C1IND/C2INB/U2TX/P1C/CN4/RB0 (io), 2 PGEC1/AN3/C1INC/C2INA/U2RX/CN5/RB1 (io), 3 AN4/T3G/U1RX/CN6/RB2 (io), 4 OSCI/AN13/C1INB/C2IND/CLKI/CN30/RA2 (io), 5 OSCO/AN14/C1INA/C2INC/CLKO/CN29/RA3 (io), 6 PGED3/SOSCI/AN15/~{U2RTS}/CN1/RB4 (io), 7 PGEC3/SOSCO/SCLKI/~{U2CTS}/CN0/RA4 (io), 8 U1TX/INT0/CN23/RB7 (io), 9 SCL1/~{U1CTS}/~{SS1}/CN22/RB8 (io), 10 SDA1/T1CK/~{U1RTS}/CCP3/CN21/RB9 (io), 11 C2OUT/CCP1/P1A/INT2/CN8/RA6 (io), 12 AN12/HLVDIN/SCK1/~{SS2}/CCP2/CN14/RB12 (io), 13 AN11/SDO1/P1D/CN13/RB13 (io), 14 CVREF/AN10/SDI1/C1OUT/~{FLT0}/INT1/CN12/RB14 (io), 15 AN9/SCL2/T3CK/REFO/SCK2/CN11/RB15 (io), 16 VSS (power) "Ground Reference for Logic and I/O Pins", 17 VDD (power) "Positive Supply for Peripheral Digital Logic and I/O Pins", 18 ~{MCLR}/VPP/RA5 (io), 19 PGEC2/VREF+/CVREF+/AN0/SDA2/SDI2/CN2/RA0 (io), 20 PGED2/CVREF-/VREF-/AN1/SDO2/CN3/RA1 (io), 21 EP (power) "EXPOSED PAD"

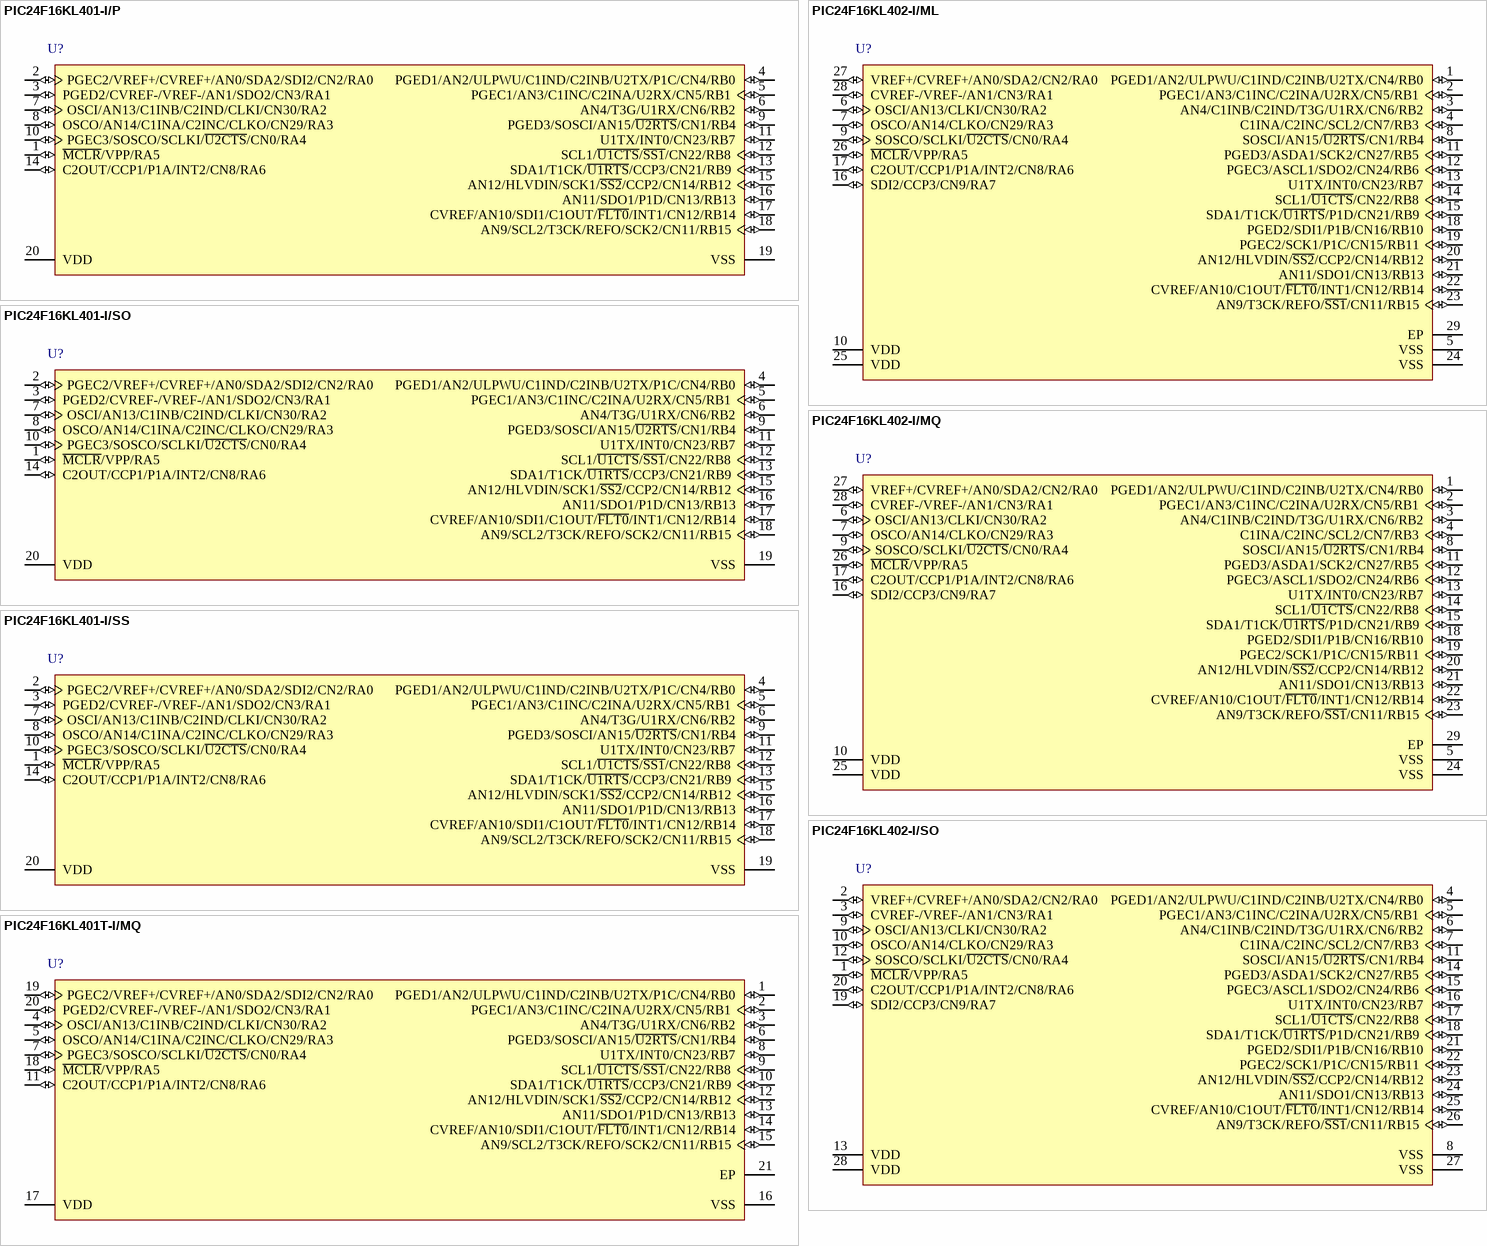
[diagram p15: symbols PIC24F16KL401-I/P to PIC24F16KL402-I/SO]

## PIC24F16KL401-I/P
designator U?
Low-Cost General Purpose 16-Bit Flash Microcontroller with nanoWatt XLP Technology, 16 MIPS, 18 I/O, -40 to 85 degC, 20-pin PDIP (P20), Tube; Manufacturer: Microchip; PartNumber: PIC24F16KL401-I/P; DatasheetVersion: Rev. B; PackageVersion: C04-019B; PackageReference: PDIP-P20; PackageDescription: 20-Pin Plastic Dual In-Line, Row Spacing 7.62 mm, 25.91 x 6.6 mm Body, 2.54 mm Pitch; Supplier 1: Digi-Key; Supplier Part Number 1: PIC24F16KL401-I/P-ND; Supplier 2: Farnell; Supplier Part Number 2: 2079401; Supplier 3: Newark; Supplier Part Number 3: 82T9612; Supplier 4: Newark; Supplier Part Number 4: 64T1126; Supplier 5: Mouser; Supplier Part Number 5: 579-PIC24F16KL401-IP; Mounting Technology: Through Hole; ComponentLink1Description: Manufacturer URL; ComponentLink1URL: http://www.microchip.com; ComponentLink2Description: Datasheet; ComponentLink2URL: http://ww1.microchip.com/downloads/en/DeviceDoc/31037b.pdf; ComponentLink3Description: Package Specification; ComponentLink3URL: http://www.microchip.com/stellent/groups/techpub_sg/documents/packagingspec/en012702.pdf; ComponentLink4Description: Product URL; ComponentLink4URL: http://www.microchip.com/PIC24F16KL401
footprint MCHP-PDIP-P20 (DIP, 20-Leads, Body 25.91x6.6mm, Pitch 2.54mm)
pins: 1 ~{MCLR}/VPP/RA5 (io), 2 PGEC2/VREF+/CVREF+/AN0/SDA2/SDI2/CN2/RA0 (io), 3 PGED2/CVREF-/VREF-/AN1/SDO2/CN3/RA1 (io), 4 PGED1/AN2/ULPWU/C1IND/C2INB/U2TX/P1C/CN4/RB0 (io), 5 PGEC1/AN3/C1INC/C2INA/U2RX/CN5/RB1 (io), 6 AN4/T3G/U1RX/CN6/RB2 (io), 7 OSCI/AN13/C1INB/C2IND/CLKI/CN30/RA2 (io), 8 OSCO/AN14/C1INA/C2INC/CLKO/CN29/RA3 (io), 9 PGED3/SOSCI/AN15/~{U2RTS}/CN1/RB4 (io), 10 PGEC3/SOSCO/SCLKI/~{U2CTS}/CN0/RA4 (io), 11 U1TX/INT0/CN23/RB7 (io), 12 SCL1/~{U1CTS}/~{SS1}/CN22/RB8 (io), 13 SDA1/T1CK/~{U1RTS}/CCP3/CN21/RB9 (io), 14 C2OUT/CCP1/P1A/INT2/CN8/RA6 (io), 15 AN12/HLVDIN/SCK1/~{SS2}/CCP2/CN14/RB12 (io), 16 AN11/SDO1/P1D/CN13/RB13 (io), 17 CVREF/AN10/SDI1/C1OUT/~{FLT0}/INT1/CN12/RB14 (io), 18 AN9/SCL2/T3CK/REFO/SCK2/CN11/RB15 (io), 19 VSS (power) "Ground Reference for Logic and I/O Pins", 20 VDD (power) "Positive Supply for Peripheral Digital Logic and I/O Pins"

## PIC24F16KL401-I/SO
designator U?
Low-Cost General Purpose 16-Bit Flash Microcontroller with nanoWatt XLP Technology, 16 MIPS, 18 I/O, -40 to 85 degC, 20-pin SOIC (SO20), Tube; Manufacturer: Microchip; PartNumber: PIC24F16KL401-I/SO; DatasheetVersion: Rev. B; PackageVersion: C04-094C; PackageReference: SOIC-SO20; PackageDescription: 20-Lead Plastic Small Outline, 7.5 x 12.8 mm Body, 1.27 mm Pitch; Supplier 1: Digi-Key; Supplier Part Number 1: PIC24F16KL401-I/SO-ND; Supplier 2: Mouser; Supplier Part Number 2: 579-PIC24F16KL401ISO; Mounting Technology: Surface Mount; ComponentLink1Description: Manufacturer URL; ComponentLink1URL: http://www.microchip.com; ComponentLink2Description: Datasheet; ComponentLink2URL: http://ww1.microchip.com/downloads/en/DeviceDoc/31037b.pdf; ComponentLink3Description: Package Specification; ComponentLink3URL: http://www.microchip.com/stellent/groups/techpub_sg/documents/packagingspec/en012702.pdf; ComponentLink4Description: Product URL; ComponentLink4URL: http://www.microchip.com/PIC24F16KL401
footprint MCHP-SOIC-SO20_N (SOIC, 20-Leads, Body 12.8x7.5mm, Pitch 1.27mm, , IPC Medium Density)
footprint MCHP-SOIC-SO20_L (SOIC, 20-Leads, Body 12.8x7.5mm, Pitch 1.27mm, , IPC High Density)
footprint MCHP-SOIC-SO20_M (SOIC, 20-Leads, Body 12.8x7.5mm, Pitch 1.27mm, , IPC Low Density)
pins: 1 ~{MCLR}/VPP/RA5 (io), 2 PGEC2/VREF+/CVREF+/AN0/SDA2/SDI2/CN2/RA0 (io), 3 PGED2/CVREF-/VREF-/AN1/SDO2/CN3/RA1 (io), 4 PGED1/AN2/ULPWU/C1IND/C2INB/U2TX/P1C/CN4/RB0 (io), 5 PGEC1/AN3/C1INC/C2INA/U2RX/CN5/RB1 (io), 6 AN4/T3G/U1RX/CN6/RB2 (io), 7 OSCI/AN13/C1INB/C2IND/CLKI/CN30/RA2 (io), 8 OSCO/AN14/C1INA/C2INC/CLKO/CN29/RA3 (io), 9 PGED3/SOSCI/AN15/~{U2RTS}/CN1/RB4 (io), 10 PGEC3/SOSCO/SCLKI/~{U2CTS}/CN0/RA4 (io), 11 U1TX/INT0/CN23/RB7 (io), 12 SCL1/~{U1CTS}/~{SS1}/CN22/RB8 (io), 13 SDA1/T1CK/~{U1RTS}/CCP3/CN21/RB9 (io), 14 C2OUT/CCP1/P1A/INT2/CN8/RA6 (io), 15 AN12/HLVDIN/SCK1/~{SS2}/CCP2/CN14/RB12 (io), 16 AN11/SDO1/P1D/CN13/RB13 (io), 17 CVREF/AN10/SDI1/C1OUT/~{FLT0}/INT1/CN12/RB14 (io), 18 AN9/SCL2/T3CK/REFO/SCK2/CN11/RB15 (io), 19 VSS (power) "Ground Reference for Logic and I/O Pins", 20 VDD (power) "Positive Supply for Peripheral Digital Logic and I/O Pins"